# Altium integrated library Microchip dsPIC33E.IntLib: 190 symbols (part 11 of 15)
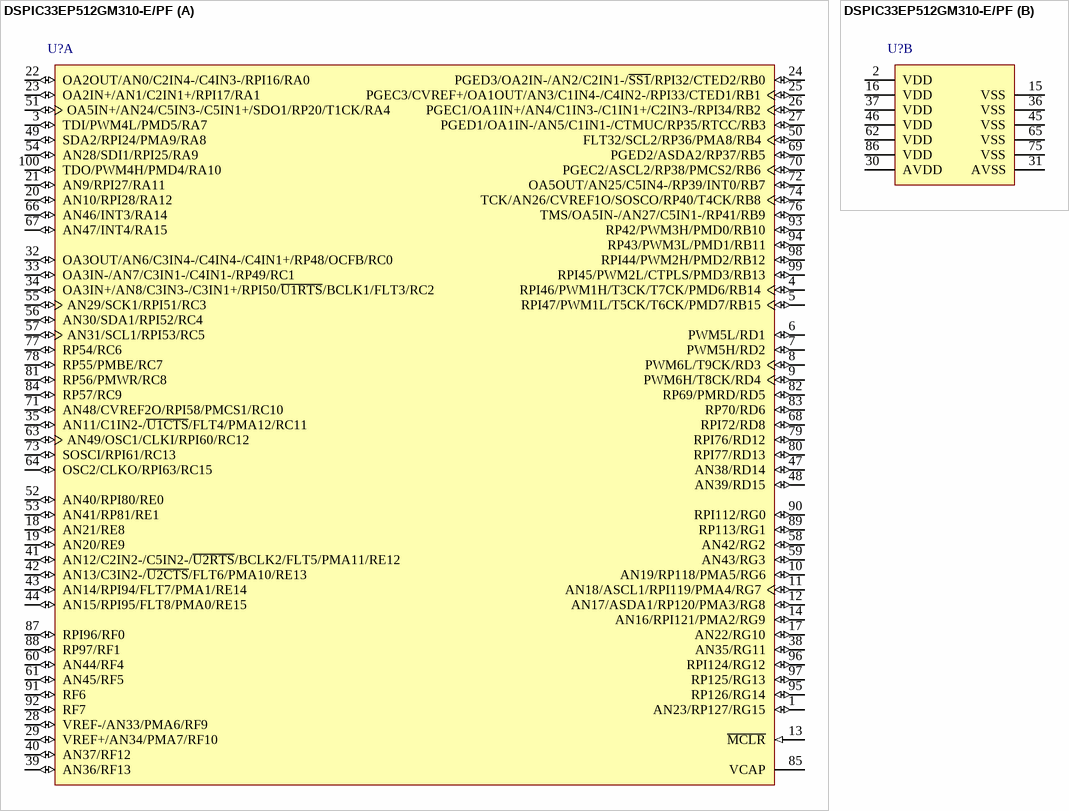
[diagram p72: symbol DSPIC33EP512GM310-E/PF]

## DSPIC33EP512GM310-E/PF
designator U?
16-Bit Digital Signal Controllers with High-Speed PWM, Op Amps and Advanced Analog Features, 60 MIPS, 85 I/O, Extended Temperature, 100-Pin TQFP (PF100), Tray; Manufacturer: Microchip; PartNumber: DSPIC33EP512GM310-E/PF; VCC Range: 3.0 to 3.6 V; DatasheetVersion: Rev. C; PackageVersion: C04-110B, 12/2012; PackageReference: TQFP-PF100; PackageDescription: 100-Lead Thin Plastic Quad Flat Pack, 14 x 14 mm Body, 0.5 mm Pitch; Supplier 1: Digi-Key; Supplier Part Number 1: DSPIC33EP512GM310-E/PF-ND; Supplier 2: Newark; Supplier Part Number 2: 66W6853; Supplier 3: Mouser; Supplier Part Number 3: 579-512GM310-E/PF; Packing: Tray; Mounting Technology: Surface Mount; ComponentLink1Description: Manufacturer URL; ComponentLink1URL: http://www.microchip.com/; ComponentLink2Description: Datasheet; ComponentLink2URL: http://ww1.microchip.com/downloads/en/DeviceDoc/70000689c.pdf; ComponentLink3Description: Package Specification; ComponentLink3URL: http://www.microchip.com/stellent/groups/techpub_sg/documents/packagingspec/en012702.pdf
footprint MCHP-TQFP-PF100_N (QFP, 100-Leads, Body 14x14mm, Pitch 0.5mm, IPC Medium Density)
footprint MCHP-TQFP-PF100_L (QFP, 100-Leads, Body 14x14mm, Pitch 0.5mm, IPC High Density)
footprint MCHP-TQFP-PF100_M (QFP, 100-Leads, Body 14x14mm, Pitch 0.5mm, IPC Low Density)
part A pins: 1 AN23/RP127/RG15 (io), 3 TDI/PWM4L/PMD5/RA7 (io), 4 RPI46/PWM1H/T3CK/T7CK/PMD6/RB14 (io), 5 RPI47/PWM1L/T5CK/T6CK/PMD7/RB15 (io), 6 PWM5L/RD1 (io), 7 PWM5H/RD2 (io), 8 PWM6L/T9CK/RD3 (io), 9 PWM6H/T8CK/RD4 (io), 10 AN19/RP118/PMA5/RG6 (io), 11 AN18/ASCL1/RPI119/PMA4/RG7 (io), 12 AN17/ASDA1/RP120/PMA3/RG8 (io), 13 ~{MCLR} (in) "Master Clear (Reset) input. This pin is an active-low Reset to the device.", 14 AN16/RPI121/PMA2/RG9 (io), 17 AN22/RG10 (io), 18 AN21/RE8 (io), 19 AN20/RE9 (io), 20 AN10/RPI28/RA12 (io), 21 AN9/RPI27/RA11 (io), 22 OA2OUT/AN0/C2IN4-/C4IN3-/RPI16/RA0 (io), 23 OA2IN+/AN1/C2IN1+/RPI17/RA1 (io), 24 PGED3/OA2IN-/AN2/C2IN1-/~{SS1}/RPI32/CTED2/RB0 (io), 25 PGEC3/CVREF+/OA1OUT/AN3/C1IN4-/C4IN2-/RPI33/CTED1/RB1 (io), 26 PGEC1/OA1IN+/AN4/C1IN3-/C1IN1+/C2IN3-/RPI34/RB2 (io), 27 PGED1/OA1IN-/AN5/C1IN1-/CTMUC/RP35/RTCC/RB3 (io), 28 VREF-/AN33/PMA6/RF9 (io), 29 VREF+/AN34/PMA7/RF10 (io), 32 OA3OUT/AN6/C3IN4-/C4IN4-/C4IN1+/RP48/OCFB/RC0 (io), 33 OA3IN-/AN7/C3IN1-/C4IN1-/RP49/RC1 (io), 34 OA3IN+/AN8/C3IN3-/C3IN1+/RPI50/~{U1RTS}/BCLK1/FLT3/RC2 (io), 35 AN11/C1IN2-/~{U1CTS}/FLT4/PMA12/RC11 (io), 38 AN35/RG11 (io), 39 AN36/RF13 (io), 40 AN37/RF12 (io), 41 AN12/C2IN2-/C5IN2-/~{U2RTS}/BCLK2/FLT5/PMA11/RE12 (io), 42 AN13/C3IN2-/~{U2CTS}/FLT6/PMA10/RE13 (io), 43 AN14/RPI94/FLT7/PMA1/RE14 (io), 44 AN15/RPI95/FLT8/PMA0/RE15 (io), 47 AN38/RD14 (io), 48 AN39/RD15 (io), 49 SDA2/RPI24/PMA9/RA8 (io), 50 FLT32/SCL2/RP36/PMA8/RB4 (io), 51 OA5IN+/AN24/C5IN3-/C5IN1+/SDO1/RP20/T1CK/RA4 (io), 52 AN40/RPI80/RE0 (io), 53 AN41/RP81/RE1 (io), 54 AN28/SDI1/RPI25/RA9 (io), 55 AN29/SCK1/RPI51/RC3 (io), 56 AN30/SDA1/RPI52/RC4 (io), 57 AN31/SCL1/RPI53/RC5 (io), 58 AN42/RG2 (io), 59 AN43/RG3 (io), 60 AN44/RF4 (io), 61 AN45/RF5 (io), 63 AN49/OSC1/CLKI/RPI60/RC12 (io), 64 OSC2/CLKO/RPI63/RC15 (io), 66 AN46/INT3/RA14 (io), 67 AN47/INT4/RA15 (io), 68 RPI72/RD8 (io), 69 PGED2/ASDA2/RP37/RB5 (io), 70 PGEC2/ASCL2/RP38/PMCS2/RB6 (io), 71 AN48/CVREF2O/RPI58/PMCS1/RC10 (io), 72 OA5OUT/AN25/C5IN4-/RP39/INT0/RB7 (io), 73 SOSCI/RPI61/RC13 (io), 74 TCK/AN26/CVREF1O/SOSCO/RP40/T4CK/RB8 (io), 76 TMS/OA5IN-/AN27/C5IN1-/RP41/RB9 (io), 77 RP54/RC6 (io), 78 RP55/PMBE/RC7 (io), 79 RPI76/RD12 (io), 80 RPI77/RD13 (io), 81 RP56/PMWR/RC8 (io), 82 RP69/PMRD/RD5 (io), 83 RP70/RD6 (io), 84 RP57/RC9 (io), 85 VCAP "CPU logic filter capacitor connection.", 87 RPI96/RF0 (io), 88 RP97/RF1 (io), 89 RP113/RG1 (io), 90 RPI112/RG0 (io), 91 RF6 (io) "PORTF is a bidirectional I/O port.", 92 RF7 (io) "PORTF is a bidirectional I/O port.", 93 RP42/PWM3H/PMD0/RB10 (io), 94 RP43/PWM3L/PMD1/RB11 (io), 95 RP126/RG14 (io), 96 RPI124/RG12 (io), 97 RP125/RG13 (io), 98 RPI44/PWM2H/PMD2/RB12 (io), 99 RPI45/PWM2L/CTPLS/PMD3/RB13 (io), 100 TDO/PWM4H/PMD4/RA10 (io)
part B pins: 2 VDD (power) "Positive supply for peripheral logic and I/O pins.", 15 VSS (power) "Ground reference for logic and I/O pins.", 16 VDD (power) "Positive supply for peripheral logic and I/O pins.", 30 AVDD (power) "Positive supply for analog modules. This pin must be connected at all times.", 31 AVSS (power) "Ground reference for analog modules.", 36 VSS (power) "Ground reference for logic and I/O pins.", 37 VDD (power) "Positive supply for peripheral logic and I/O pins.", 45 VSS (power) "Ground reference for logic and I/O pins.", 46 VDD (power) "Positive supply for peripheral logic and I/O pins.", 62 VDD (power) "Positive supply for peripheral logic and I/O pins.", 65 VSS (power) "Ground reference for logic and I/O pins.", 75 VSS (power) "Ground reference for logic and I/O pins.", 86 VDD (power) "Positive supply for peripheral logic and I/O pins."

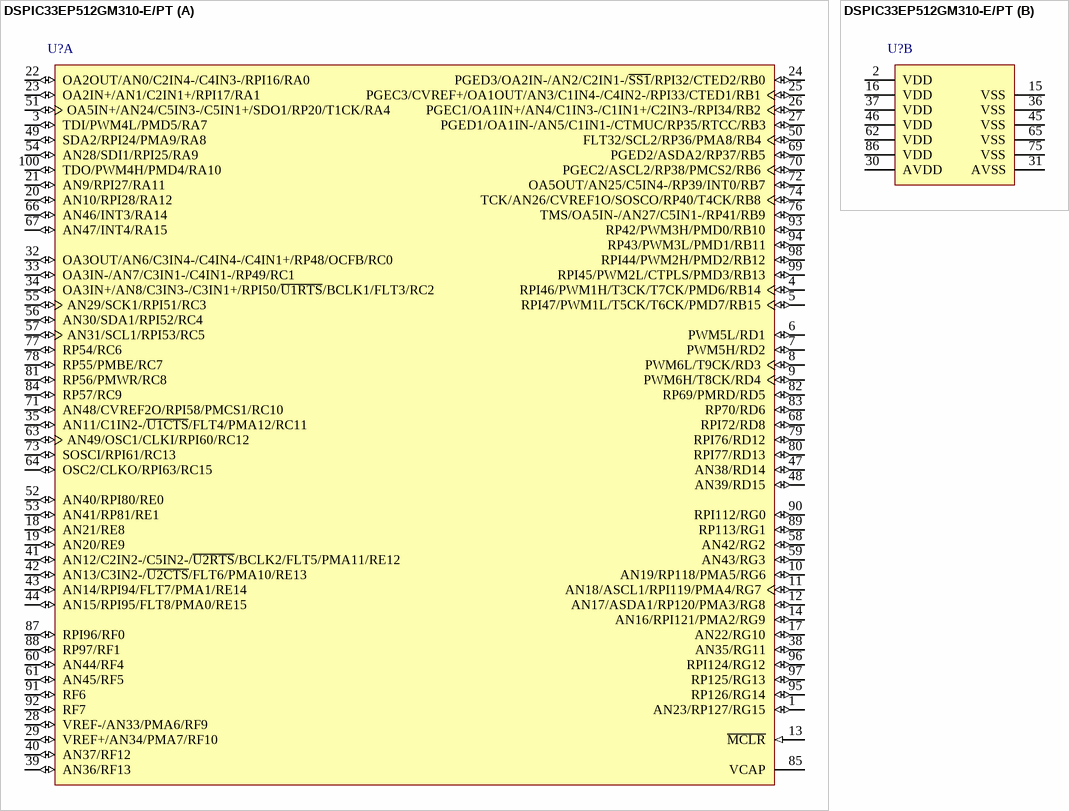
[diagram p37: symbol DSPIC33EP512GM310-E/PT]

## DSPIC33EP512GM310-E/PT
designator U?
16-Bit Digital Signal Controllers with High-Speed PWM, Op Amps and Advanced Analog Features, 60 MIPS, 85 I/O, Extended Temperature, 100-Pin TQFP (PT100), Tray; Manufacturer: Microchip; PartNumber: DSPIC33EP512GM310-E/PT; VCC Range: 3.0 to 3.6 V; DatasheetVersion: Rev. C; PackageVersion: C04-100B, 12/2012; PackageReference: TQFP-PT100; PackageDescription: 100-Lead Plastic Thin Quad Flatpack, 12 x 12 mm Body, 0.4 mm Pitch; Supplier 1: Digi-Key; Supplier Part Number 1: DSPIC33EP512GM310-E/PT-ND; Supplier 2: Newark; Supplier Part Number 2: 66W6854; Supplier 3: Mouser; Supplier Part Number 3: 579-512GM310-E/PT; Packing: Tray; Mounting Technology: Surface Mount; ComponentLink1Description: Manufacturer URL; ComponentLink1URL: http://www.microchip.com/; ComponentLink2Description: Datasheet; ComponentLink2URL: http://ww1.microchip.com/downloads/en/DeviceDoc/70000689c.pdf; ComponentLink3Description: Package Specification; ComponentLink3URL: http://www.microchip.com/stellent/groups/techpub_sg/documents/packagingspec/en012702.pdf
footprint MCHP-TQFP-PT100_N (QFP, 100-Leads, Body 12x12mm, Pitch 0.4mm, IPC Medium Density)
footprint MCHP-TQFP-PT100_L (QFP, 100-Leads, Body 12x12mm, Pitch 0.4mm, IPC High Density)
footprint MCHP-TQFP-PT100_M (TQFP, 100-Leads, Body 12x12mm, Pitch 0.4mm, IPC Low Density)
part A pins: 1 AN23/RP127/RG15 (io), 3 TDI/PWM4L/PMD5/RA7 (io), 4 RPI46/PWM1H/T3CK/T7CK/PMD6/RB14 (io), 5 RPI47/PWM1L/T5CK/T6CK/PMD7/RB15 (io), 6 PWM5L/RD1 (io), 7 PWM5H/RD2 (io), 8 PWM6L/T9CK/RD3 (io), 9 PWM6H/T8CK/RD4 (io), 10 AN19/RP118/PMA5/RG6 (io), 11 AN18/ASCL1/RPI119/PMA4/RG7 (io), 12 AN17/ASDA1/RP120/PMA3/RG8 (io), 13 ~{MCLR} (in) "Master Clear (Reset) input. This pin is an active-low Reset to the device.", 14 AN16/RPI121/PMA2/RG9 (io), 17 AN22/RG10 (io), 18 AN21/RE8 (io), 19 AN20/RE9 (io), 20 AN10/RPI28/RA12 (io), 21 AN9/RPI27/RA11 (io), 22 OA2OUT/AN0/C2IN4-/C4IN3-/RPI16/RA0 (io), 23 OA2IN+/AN1/C2IN1+/RPI17/RA1 (io), 24 PGED3/OA2IN-/AN2/C2IN1-/~{SS1}/RPI32/CTED2/RB0 (io), 25 PGEC3/CVREF+/OA1OUT/AN3/C1IN4-/C4IN2-/RPI33/CTED1/RB1 (io), 26 PGEC1/OA1IN+/AN4/C1IN3-/C1IN1+/C2IN3-/RPI34/RB2 (io), 27 PGED1/OA1IN-/AN5/C1IN1-/CTMUC/RP35/RTCC/RB3 (io), 28 VREF-/AN33/PMA6/RF9 (io), 29 VREF+/AN34/PMA7/RF10 (io), 32 OA3OUT/AN6/C3IN4-/C4IN4-/C4IN1+/RP48/OCFB/RC0 (io), 33 OA3IN-/AN7/C3IN1-/C4IN1-/RP49/RC1 (io), 34 OA3IN+/AN8/C3IN3-/C3IN1+/RPI50/~{U1RTS}/BCLK1/FLT3/RC2 (io), 35 AN11/C1IN2-/~{U1CTS}/FLT4/PMA12/RC11 (io), 38 AN35/RG11 (io), 39 AN36/RF13 (io), 40 AN37/RF12 (io), 41 AN12/C2IN2-/C5IN2-/~{U2RTS}/BCLK2/FLT5/PMA11/RE12 (io), 42 AN13/C3IN2-/~{U2CTS}/FLT6/PMA10/RE13 (io), 43 AN14/RPI94/FLT7/PMA1/RE14 (io), 44 AN15/RPI95/FLT8/PMA0/RE15 (io), 47 AN38/RD14 (io), 48 AN39/RD15 (io), 49 SDA2/RPI24/PMA9/RA8 (io), 50 FLT32/SCL2/RP36/PMA8/RB4 (io), 51 OA5IN+/AN24/C5IN3-/C5IN1+/SDO1/RP20/T1CK/RA4 (io), 52 AN40/RPI80/RE0 (io), 53 AN41/RP81/RE1 (io), 54 AN28/SDI1/RPI25/RA9 (io), 55 AN29/SCK1/RPI51/RC3 (io), 56 AN30/SDA1/RPI52/RC4 (io), 57 AN31/SCL1/RPI53/RC5 (io), 58 AN42/RG2 (io), 59 AN43/RG3 (io), 60 AN44/RF4 (io), 61 AN45/RF5 (io), 63 AN49/OSC1/CLKI/RPI60/RC12 (io), 64 OSC2/CLKO/RPI63/RC15 (io), 66 AN46/INT3/RA14 (io), 67 AN47/INT4/RA15 (io), 68 RPI72/RD8 (io), 69 PGED2/ASDA2/RP37/RB5 (io), 70 PGEC2/ASCL2/RP38/PMCS2/RB6 (io), 71 AN48/CVREF2O/RPI58/PMCS1/RC10 (io), 72 OA5OUT/AN25/C5IN4-/RP39/INT0/RB7 (io), 73 SOSCI/RPI61/RC13 (io), 74 TCK/AN26/CVREF1O/SOSCO/RP40/T4CK/RB8 (io), 76 TMS/OA5IN-/AN27/C5IN1-/RP41/RB9 (io), 77 RP54/RC6 (io), 78 RP55/PMBE/RC7 (io), 79 RPI76/RD12 (io), 80 RPI77/RD13 (io), 81 RP56/PMWR/RC8 (io), 82 RP69/PMRD/RD5 (io), 83 RP70/RD6 (io), 84 RP57/RC9 (io), 85 VCAP "CPU logic filter capacitor connection.", 87 RPI96/RF0 (io), 88 RP97/RF1 (io), 89 RP113/RG1 (io), 90 RPI112/RG0 (io), 91 RF6 (io) "PORTF is a bidirectional I/O port.", 92 RF7 (io) "PORTF is a bidirectional I/O port.", 93 RP42/PWM3H/PMD0/RB10 (io), 94 RP43/PWM3L/PMD1/RB11 (io), 95 RP126/RG14 (io), 96 RPI124/RG12 (io), 97 RP125/RG13 (io), 98 RPI44/PWM2H/PMD2/RB12 (io), 99 RPI45/PWM2L/CTPLS/PMD3/RB13 (io), 100 TDO/PWM4H/PMD4/RA10 (io)
part B pins: 2 VDD (power) "Positive supply for peripheral logic and I/O pins.", 15 VSS (power) "Ground reference for logic and I/O pins.", 16 VDD (power) "Positive supply for peripheral logic and I/O pins.", 30 AVDD (power) "Positive supply for analog modules. This pin must be connected at all times.", 31 AVSS (power) "Ground reference for analog modules.", 36 VSS (power) "Ground reference for logic and I/O pins.", 37 VDD (power) "Positive supply for peripheral logic and I/O pins.", 45 VSS (power) "Ground reference for logic and I/O pins.", 46 VDD (power) "Positive supply for peripheral logic and I/O pins.", 62 VDD (power) "Positive supply for peripheral logic and I/O pins.", 65 VSS (power) "Ground reference for logic and I/O pins.", 75 VSS (power) "Ground reference for logic and I/O pins.", 86 VDD (power) "Positive supply for peripheral logic and I/O pins."

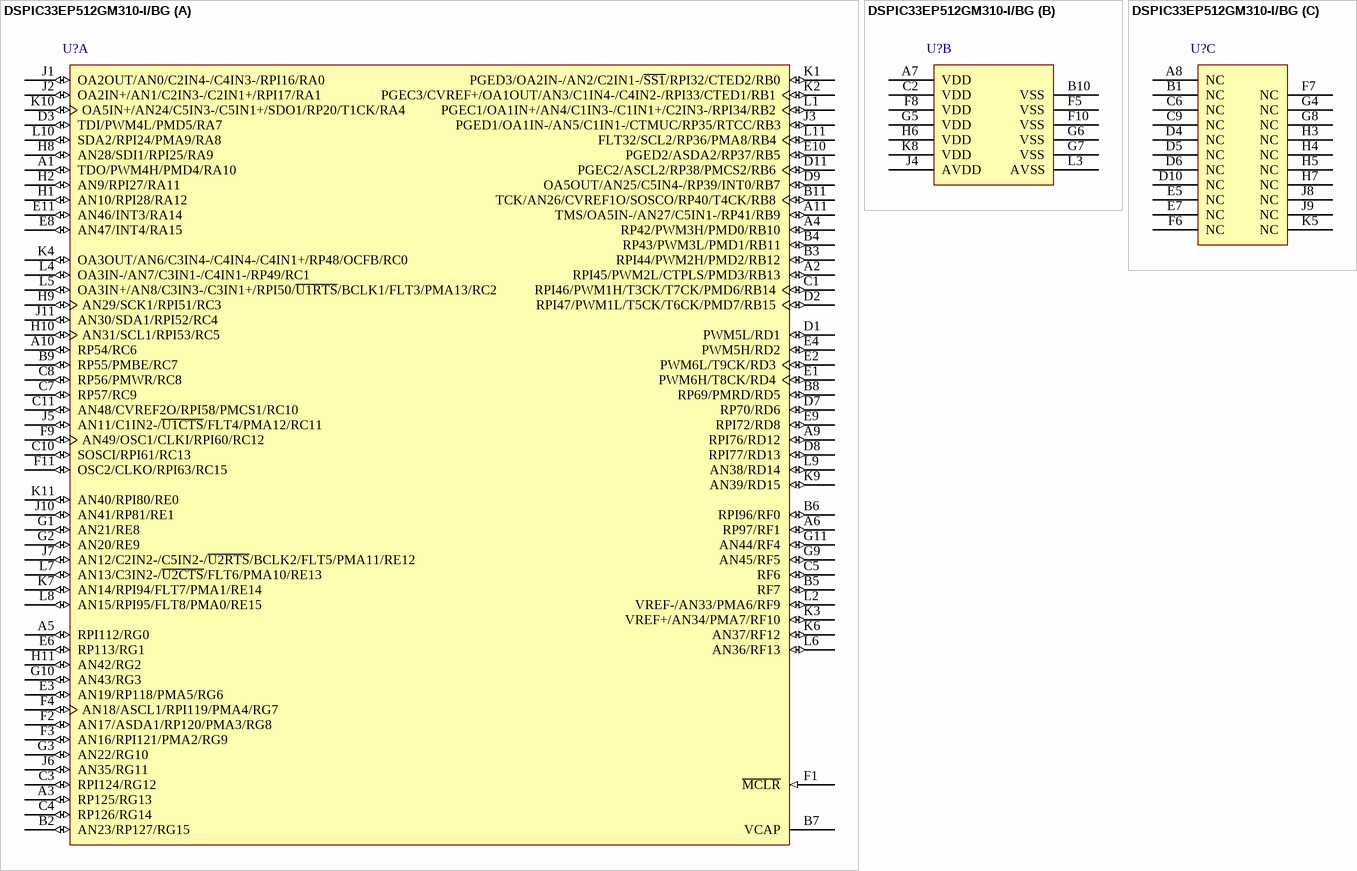
[diagram p38: symbol DSPIC33EP512GM310-I/BG]

## DSPIC33EP512GM310-I/BG
designator U?
16-Bit Digital Signal Controllers with High-Speed PWM, Op Amps and Advanced Analog Features, 70 MIPS, 85 I/O, Industrial Temperature, 121-Pin TFBGA (BG121), Tray; Manufacturer: Microchip; PartNumber: DSPIC33EP512GM310-I/BG; VCC Range: 3.0 to 3.6 V; DatasheetVersion: Rev. C; PackageVersion: C04-148D, 12/2012; PackageReference: TFBGA-BG121; PackageDescription: 121-Ball Plastic Thin Profile Ball Grid Array, 10 x 10 mm Body, 0.8 mm Pitch; Supplier 1: Digi-Key; Supplier Part Number 1: DSPIC33EP512GM310-I/BG-ND; Supplier 2: Farnell; Supplier Part Number 2: 2353892; Supplier 3: Newark; Supplier Part Number 3: 66W6858; Supplier 4: Mouser; Supplier Part Number 4: 579-512GM310-I/BG; Packing: Tray; Mounting Technology: Surface Mount; ComponentLink1Description: Manufacturer URL; ComponentLink1URL: http://www.microchip.com/; ComponentLink2Description: Datasheet; ComponentLink2URL: http://ww1.microchip.com/downloads/en/DeviceDoc/70000689c.pdf; ComponentLink3Description: Package Specification; ComponentLink3URL: http://www.microchip.com/stellent/groups/techpub_sg/documents/packagingspec/en012702.pdf
footprint MCHP-TFBGA-BG121 (BGA, 121-Balls, Body 10x10mm, Pitch 0.8mm)
part A pins: A1 TDO/PWM4H/PMD4/RA10 (io), A2 RPI45/PWM2L/CTPLS/PMD3/RB13 (io), A3 RP125/RG13 (io), A4 RP42/PWM3H/PMD0/RB10 (io), A5 RPI112/RG0 (io), A6 RP97/RF1 (io), A9 RPI76/RD12 (io), A10 RP54/RC6 (io), A11 TMS/OA5IN-/AN27/C5IN1-/RP41/RB9 (io), B2 AN23/RP127/RG15 (io), B3 RPI44/PWM2H/PMD2/RB12 (io), B4 RP43/PWM3L/PMD1/RB11 (io), B5 RF7 (io) "PORTF is a bidirectional I/O port.", B6 RPI96/RF0 (io), B7 VCAP "CPU logic filter capacitor connection.", B8 RP69/PMRD/RD5 (io), B9 RP55/PMBE/RC7 (io), B11 TCK/AN26/CVREF1O/SOSCO/RP40/T4CK/RB8 (io), C1 RPI46/PWM1H/T3CK/T7CK/PMD6/RB14 (io), C3 RPI124/RG12 (io), C4 RP126/RG14 (io), C5 RF6 (io) "PORTF is a bidirectional I/O port.", C7 RP57/RC9 (io), C8 RP56/PMWR/RC8 (io), C10 SOSCI/RPI61/RC13 (io), C11 AN48/CVREF2O/RPI58/PMCS1/RC10 (io), D1 PWM5L/RD1 (io), D2 RPI47/PWM1L/T5CK/T6CK/PMD7/RB15 (io), D3 TDI/PWM4L/PMD5/RA7 (io), D7 RP70/RD6 (io), D8 RPI77/RD13 (io), D9 OA5OUT/AN25/C5IN4-/RP39/INT0/RB7 (io), D11 PGEC2/ASCL2/RP38/PMCS2/RB6 (io), E1 PWM6H/T8CK/RD4 (io), E2 PWM6L/T9CK/RD3 (io), E3 AN19/RP118/PMA5/RG6 (io), E4 PWM5H/RD2 (io), E6 RP113/RG1 (io), E8 AN47/INT4/RA15 (io), E9 RPI72/RD8 (io), E10 PGED2/ASDA2/RP37/RB5 (io), E11 AN46/INT3/RA14 (io), F1 ~{MCLR} (in) "Master Clear (Reset) input. This pin is an active-low Reset to the device.", F2 AN17/ASDA1/RP120/PMA3/RG8 (io), F3 AN16/RPI121/PMA2/RG9 (io), F4 AN18/ASCL1/RPI119/PMA4/RG7 (io), F9 AN49/OSC1/CLKI/RPI60/RC12 (io), F11 OSC2/CLKO/RPI63/RC15 (io), G1 AN21/RE8 (io), G2 AN20/RE9 (io), G3 AN22/RG10 (io), G9 AN45/RF5 (io), G10 AN43/RG3 (io), G11 AN44/RF4 (io), H1 AN10/RPI28/RA12 (io), H2 AN9/RPI27/RA11 (io), H8 AN28/SDI1/RPI25/RA9 (io), H9 AN29/SCK1/RPI51/RC3 (io), H10 AN31/SCL1/RPI53/RC5 (io), H11 AN42/RG2 (io), J1 OA2OUT/AN0/C2IN4-/C4IN3-/RPI16/RA0 (io), J2 OA2IN+/AN1/C2IN3-/C2IN1+/RPI17/RA1 (io), J3 PGED1/OA1IN-/AN5/C1IN1-/CTMUC/RP35/RTCC/RB3 (io), J5 AN11/C1IN2-/~{U1CTS}/FLT4/PMA12/RC11 (io), J6 AN35/RG11 (io), J7 AN12/C2IN2-/C5IN2-/~{U2RTS}/BCLK2/FLT5/PMA11/RE12 (io), J10 AN41/RP81/RE1 (io), J11 AN30/SDA1/RPI52/RC4 (io), K1 PGED3/OA2IN-/AN2/C2IN1-/~{SS1}/RPI32/CTED2/RB0 (io), K2 PGEC3/CVREF+/OA1OUT/AN3/C1IN4-/C4IN2-/RPI33/CTED1/RB1 (io), K3 VREF+/AN34/PMA7/RF10 (io), K4 OA3OUT/AN6/C3IN4-/C4IN4-/C4IN1+/RP48/OCFB/RC0 (io), K6 AN37/RF12 (io), K7 AN14/RPI94/FLT7/PMA1/RE14 (io), K9 AN39/RD15 (io), K10 OA5IN+/AN24/C5IN3-/C5IN1+/SDO1/RP20/T1CK/RA4 (io), K11 AN40/RPI80/RE0 (io), L1 PGEC1/OA1IN+/AN4/C1IN3-/C1IN1+/C2IN3-/RPI34/RB2 (io), L2 VREF-/AN33/PMA6/RF9 (io), L4 OA3IN-/AN7/C3IN1-/C4IN1-/RP49/RC1 (io), L5 OA3IN+/AN8/C3IN3-/C3IN1+/RPI50/~{U1RTS}/BCLK1/FLT3/PMA13/RC2 (io), L6 AN36/RF13 (io), L7 AN13/C3IN2-/~{U2CTS}/FLT6/PMA10/RE13 (io), L8 AN15/RPI95/FLT8/PMA0/RE15 (io), L9 AN38/RD14 (io), L10 SDA2/RPI24/PMA9/RA8 (io), L11 FLT32/SCL2/RP36/PMA8/RB4 (io)
part B pins: A7 VDD (power) "Positive supply for peripheral logic and I/O pins.", B10 VSS (power) "Ground reference for logic and I/O pins.", C2 VDD (power) "Positive supply for peripheral logic and I/O pins.", F5 VSS (power) "Ground reference for logic and I/O pins.", F8 VDD (power) "Positive supply for peripheral logic and I/O pins.", F10 VSS (power) "Ground reference for logic and I/O pins.", G5 VDD (power) "Positive supply for peripheral logic and I/O pins.", G6 VSS (power) "Ground reference for logic and I/O pins.", G7 VSS (power) "Ground reference for logic and I/O pins.", H6 VDD (power) "Positive supply for peripheral logic and I/O pins.", J4 AVDD (power) "Positive supply for analog modules. This pin must be connected at all times.", K8 VDD (power) "Positive supply for peripheral logic and I/O pins.", L3 AVSS (power) "Ground reference for analog modules."
part C pins: A8 NC "No Connect", B1 NC "No Connect", C6 NC "No Connect", C9 NC "No Connect", D4 NC "No Connect", D5 NC "No Connect", D6 NC "No Connect", D10 NC "No Connect", E5 NC "No Connect", E7 NC "No Connect", F6 NC "No Connect", F7 NC "No Connect", G4 NC "No Connect", G8 NC "No Connect", H3 NC "No Connect", H4 NC "No Connect", H5 NC "No Connect", H7 NC "No Connect", J8 NC "No Connect", J9 NC "No Connect", K5 NC "No Connect"

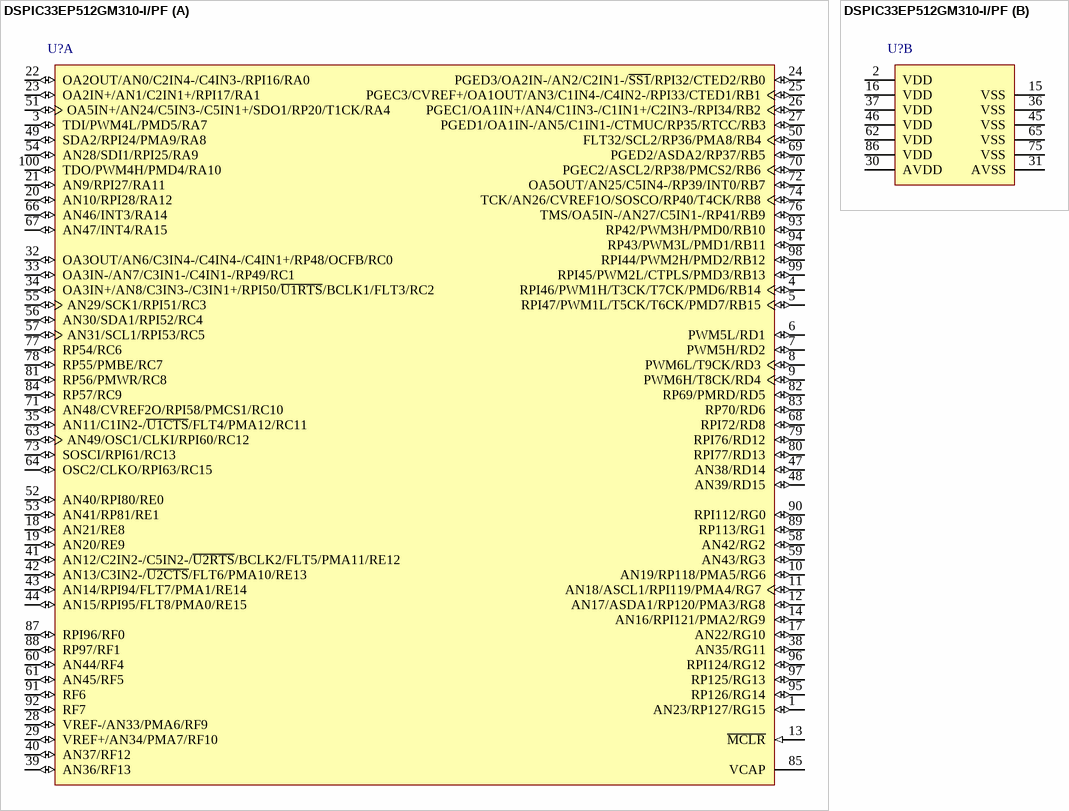
[diagram p39: symbol DSPIC33EP512GM310-I/PF]

## DSPIC33EP512GM310-I/PF
designator U?
16-Bit Digital Signal Controllers with High-Speed PWM, Op Amps and Advanced Analog Features, 70 MIPS, 85 I/O, Industrial Temperature, 100-Pin TQFP (PF100), Tray; Manufacturer: Microchip; PartNumber: DSPIC33EP512GM310-I/PF; VCC Range: 3.0 to 3.6 V; DatasheetVersion: Rev. C; PackageVersion: C04-110B, 12/2012; PackageReference: TQFP-PF100; PackageDescription: 100-Lead Thin Plastic Quad Flat Pack, 14 x 14 mm Body, 0.5 mm Pitch; Supplier 1: Digi-Key; Supplier Part Number 1: DSPIC33EP512GM310-I/PF-ND; Supplier 2: Farnell; Supplier Part Number 2: 2353893; Supplier 3: Newark; Supplier Part Number 3: 66W6859; Supplier 4: Mouser; Supplier Part Number 4: 579-512GM310-I/PF; Packing: Tray; Mounting Technology: Surface Mount; ComponentLink1Description: Manufacturer URL; ComponentLink1URL: http://www.microchip.com/; ComponentLink2Description: Datasheet; ComponentLink2URL: http://ww1.microchip.com/downloads/en/DeviceDoc/70000689c.pdf; ComponentLink3Description: Package Specification; ComponentLink3URL: http://www.microchip.com/stellent/groups/techpub_sg/documents/packagingspec/en012702.pdf
footprint MCHP-TQFP-PF100_N (QFP, 100-Leads, Body 14x14mm, Pitch 0.5mm, IPC Medium Density)
footprint MCHP-TQFP-PF100_L (QFP, 100-Leads, Body 14x14mm, Pitch 0.5mm, IPC High Density)
footprint MCHP-TQFP-PF100_M (QFP, 100-Leads, Body 14x14mm, Pitch 0.5mm, IPC Low Density)
part A pins: 1 AN23/RP127/RG15 (io), 3 TDI/PWM4L/PMD5/RA7 (io), 4 RPI46/PWM1H/T3CK/T7CK/PMD6/RB14 (io), 5 RPI47/PWM1L/T5CK/T6CK/PMD7/RB15 (io), 6 PWM5L/RD1 (io), 7 PWM5H/RD2 (io), 8 PWM6L/T9CK/RD3 (io), 9 PWM6H/T8CK/RD4 (io), 10 AN19/RP118/PMA5/RG6 (io), 11 AN18/ASCL1/RPI119/PMA4/RG7 (io), 12 AN17/ASDA1/RP120/PMA3/RG8 (io), 13 ~{MCLR} (in) "Master Clear (Reset) input. This pin is an active-low Reset to the device.", 14 AN16/RPI121/PMA2/RG9 (io), 17 AN22/RG10 (io), 18 AN21/RE8 (io), 19 AN20/RE9 (io), 20 AN10/RPI28/RA12 (io), 21 AN9/RPI27/RA11 (io), 22 OA2OUT/AN0/C2IN4-/C4IN3-/RPI16/RA0 (io), 23 OA2IN+/AN1/C2IN1+/RPI17/RA1 (io), 24 PGED3/OA2IN-/AN2/C2IN1-/~{SS1}/RPI32/CTED2/RB0 (io), 25 PGEC3/CVREF+/OA1OUT/AN3/C1IN4-/C4IN2-/RPI33/CTED1/RB1 (io), 26 PGEC1/OA1IN+/AN4/C1IN3-/C1IN1+/C2IN3-/RPI34/RB2 (io), 27 PGED1/OA1IN-/AN5/C1IN1-/CTMUC/RP35/RTCC/RB3 (io), 28 VREF-/AN33/PMA6/RF9 (io), 29 VREF+/AN34/PMA7/RF10 (io), 32 OA3OUT/AN6/C3IN4-/C4IN4-/C4IN1+/RP48/OCFB/RC0 (io), 33 OA3IN-/AN7/C3IN1-/C4IN1-/RP49/RC1 (io), 34 OA3IN+/AN8/C3IN3-/C3IN1+/RPI50/~{U1RTS}/BCLK1/FLT3/RC2 (io), 35 AN11/C1IN2-/~{U1CTS}/FLT4/PMA12/RC11 (io), 38 AN35/RG11 (io), 39 AN36/RF13 (io), 40 AN37/RF12 (io), 41 AN12/C2IN2-/C5IN2-/~{U2RTS}/BCLK2/FLT5/PMA11/RE12 (io), 42 AN13/C3IN2-/~{U2CTS}/FLT6/PMA10/RE13 (io), 43 AN14/RPI94/FLT7/PMA1/RE14 (io), 44 AN15/RPI95/FLT8/PMA0/RE15 (io), 47 AN38/RD14 (io), 48 AN39/RD15 (io), 49 SDA2/RPI24/PMA9/RA8 (io), 50 FLT32/SCL2/RP36/PMA8/RB4 (io), 51 OA5IN+/AN24/C5IN3-/C5IN1+/SDO1/RP20/T1CK/RA4 (io), 52 AN40/RPI80/RE0 (io), 53 AN41/RP81/RE1 (io), 54 AN28/SDI1/RPI25/RA9 (io), 55 AN29/SCK1/RPI51/RC3 (io), 56 AN30/SDA1/RPI52/RC4 (io), 57 AN31/SCL1/RPI53/RC5 (io), 58 AN42/RG2 (io), 59 AN43/RG3 (io), 60 AN44/RF4 (io), 61 AN45/RF5 (io), 63 AN49/OSC1/CLKI/RPI60/RC12 (io), 64 OSC2/CLKO/RPI63/RC15 (io), 66 AN46/INT3/RA14 (io), 67 AN47/INT4/RA15 (io), 68 RPI72/RD8 (io), 69 PGED2/ASDA2/RP37/RB5 (io), 70 PGEC2/ASCL2/RP38/PMCS2/RB6 (io), 71 AN48/CVREF2O/RPI58/PMCS1/RC10 (io), 72 OA5OUT/AN25/C5IN4-/RP39/INT0/RB7 (io), 73 SOSCI/RPI61/RC13 (io), 74 TCK/AN26/CVREF1O/SOSCO/RP40/T4CK/RB8 (io), 76 TMS/OA5IN-/AN27/C5IN1-/RP41/RB9 (io), 77 RP54/RC6 (io), 78 RP55/PMBE/RC7 (io), 79 RPI76/RD12 (io), 80 RPI77/RD13 (io), 81 RP56/PMWR/RC8 (io), 82 RP69/PMRD/RD5 (io), 83 RP70/RD6 (io), 84 RP57/RC9 (io), 85 VCAP "CPU logic filter capacitor connection.", 87 RPI96/RF0 (io), 88 RP97/RF1 (io), 89 RP113/RG1 (io), 90 RPI112/RG0 (io), 91 RF6 (io) "PORTF is a bidirectional I/O port.", 92 RF7 (io) "PORTF is a bidirectional I/O port.", 93 RP42/PWM3H/PMD0/RB10 (io), 94 RP43/PWM3L/PMD1/RB11 (io), 95 RP126/RG14 (io), 96 RPI124/RG12 (io), 97 RP125/RG13 (io), 98 RPI44/PWM2H/PMD2/RB12 (io), 99 RPI45/PWM2L/CTPLS/PMD3/RB13 (io), 100 TDO/PWM4H/PMD4/RA10 (io)
part B pins: 2 VDD (power) "Positive supply for peripheral logic and I/O pins.", 15 VSS (power) "Ground reference for logic and I/O pins.", 16 VDD (power) "Positive supply for peripheral logic and I/O pins.", 30 AVDD (power) "Positive supply for analog modules. This pin must be connected at all times.", 31 AVSS (power) "Ground reference for analog modules.", 36 VSS (power) "Ground reference for logic and I/O pins.", 37 VDD (power) "Positive supply for peripheral logic and I/O pins.", 45 VSS (power) "Ground reference for logic and I/O pins.", 46 VDD (power) "Positive supply for peripheral logic and I/O pins.", 62 VDD (power) "Positive supply for peripheral logic and I/O pins.", 65 VSS (power) "Ground reference for logic and I/O pins.", 75 VSS (power) "Ground reference for logic and I/O pins.", 86 VDD (power) "Positive supply for peripheral logic and I/O pins."

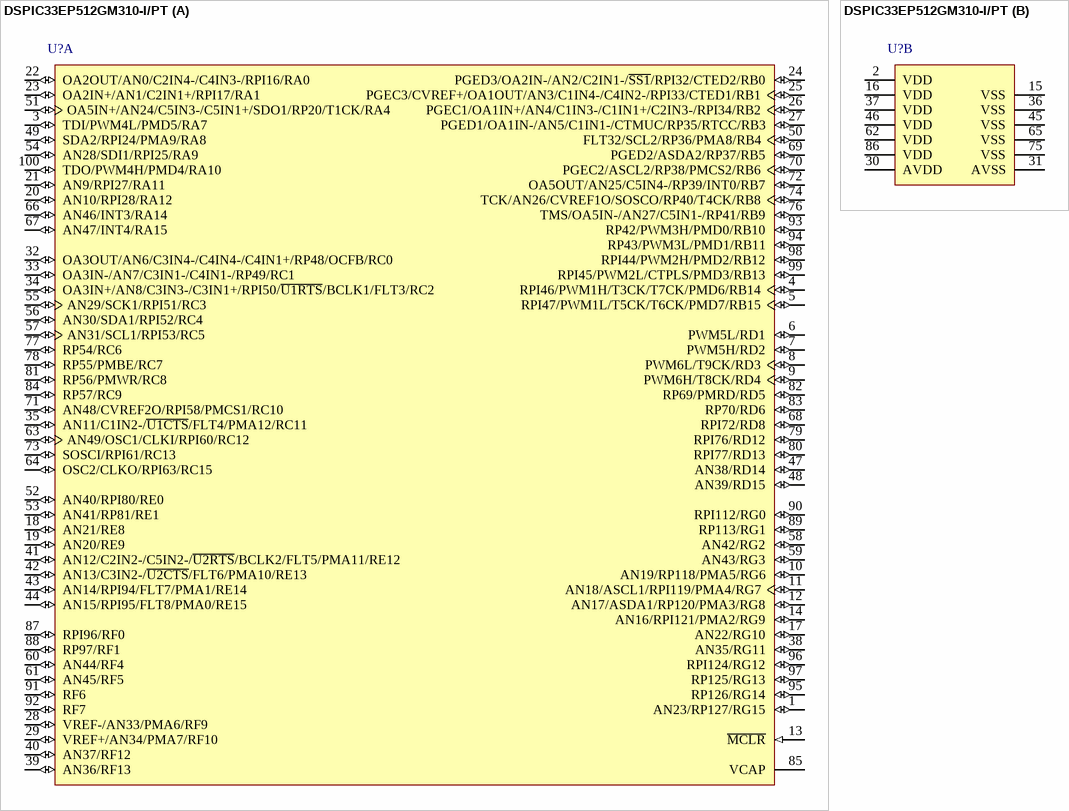
[diagram p40: symbol DSPIC33EP512GM310-I/PT]

## DSPIC33EP512GM310-I/PT
designator U?
16-Bit Digital Signal Controllers with High-Speed PWM, Op Amps and Advanced Analog Features, 70 MIPS, 85 I/O, Industrial Temperature, 100-Pin TQFP (PT100), Tray; Manufacturer: Microchip; PartNumber: DSPIC33EP512GM310-I/PT; VCC Range: 3.0 to 3.6 V; DatasheetVersion: Rev. C; PackageVersion: C04-100B, 12/2012; PackageReference: TQFP-PT100; PackageDescription: 100-Lead Plastic Thin Quad Flatpack, 12 x 12 mm Body, 0.4 mm Pitch; Supplier 1: Digi-Key; Supplier Part Number 1: DSPIC33EP512GM310-I/PT-ND; Supplier 2: Farnell; Supplier Part Number 2: 2355357; Supplier 3: Newark; Supplier Part Number 3: 66W6860; Supplier 4: Mouser; Supplier Part Number 4: 579-512GM310-I/PT; Packing: Tray; Mounting Technology: Surface Mount; ComponentLink1Description: Manufacturer URL; ComponentLink1URL: http://www.microchip.com/; ComponentLink2Description: Datasheet; ComponentLink2URL: http://ww1.microchip.com/downloads/en/DeviceDoc/70000689c.pdf; ComponentLink3Description: Package Specification; ComponentLink3URL: http://www.microchip.com/stellent/groups/techpub_sg/documents/packagingspec/en012702.pdf
footprint MCHP-TQFP-PT100_N (QFP, 100-Leads, Body 12x12mm, Pitch 0.4mm, IPC Medium Density)
footprint MCHP-TQFP-PT100_L (QFP, 100-Leads, Body 12x12mm, Pitch 0.4mm, IPC High Density)
footprint MCHP-TQFP-PT100_M (TQFP, 100-Leads, Body 12x12mm, Pitch 0.4mm, IPC Low Density)
part A pins: 1 AN23/RP127/RG15 (io), 3 TDI/PWM4L/PMD5/RA7 (io), 4 RPI46/PWM1H/T3CK/T7CK/PMD6/RB14 (io), 5 RPI47/PWM1L/T5CK/T6CK/PMD7/RB15 (io), 6 PWM5L/RD1 (io), 7 PWM5H/RD2 (io), 8 PWM6L/T9CK/RD3 (io), 9 PWM6H/T8CK/RD4 (io), 10 AN19/RP118/PMA5/RG6 (io), 11 AN18/ASCL1/RPI119/PMA4/RG7 (io), 12 AN17/ASDA1/RP120/PMA3/RG8 (io), 13 ~{MCLR} (in) "Master Clear (Reset) input. This pin is an active-low Reset to the device.", 14 AN16/RPI121/PMA2/RG9 (io), 17 AN22/RG10 (io), 18 AN21/RE8 (io), 19 AN20/RE9 (io), 20 AN10/RPI28/RA12 (io), 21 AN9/RPI27/RA11 (io), 22 OA2OUT/AN0/C2IN4-/C4IN3-/RPI16/RA0 (io), 23 OA2IN+/AN1/C2IN1+/RPI17/RA1 (io), 24 PGED3/OA2IN-/AN2/C2IN1-/~{SS1}/RPI32/CTED2/RB0 (io), 25 PGEC3/CVREF+/OA1OUT/AN3/C1IN4-/C4IN2-/RPI33/CTED1/RB1 (io), 26 PGEC1/OA1IN+/AN4/C1IN3-/C1IN1+/C2IN3-/RPI34/RB2 (io), 27 PGED1/OA1IN-/AN5/C1IN1-/CTMUC/RP35/RTCC/RB3 (io), 28 VREF-/AN33/PMA6/RF9 (io), 29 VREF+/AN34/PMA7/RF10 (io), 32 OA3OUT/AN6/C3IN4-/C4IN4-/C4IN1+/RP48/OCFB/RC0 (io), 33 OA3IN-/AN7/C3IN1-/C4IN1-/RP49/RC1 (io), 34 OA3IN+/AN8/C3IN3-/C3IN1+/RPI50/~{U1RTS}/BCLK1/FLT3/RC2 (io), 35 AN11/C1IN2-/~{U1CTS}/FLT4/PMA12/RC11 (io), 38 AN35/RG11 (io), 39 AN36/RF13 (io), 40 AN37/RF12 (io), 41 AN12/C2IN2-/C5IN2-/~{U2RTS}/BCLK2/FLT5/PMA11/RE12 (io), 42 AN13/C3IN2-/~{U2CTS}/FLT6/PMA10/RE13 (io), 43 AN14/RPI94/FLT7/PMA1/RE14 (io), 44 AN15/RPI95/FLT8/PMA0/RE15 (io), 47 AN38/RD14 (io), 48 AN39/RD15 (io), 49 SDA2/RPI24/PMA9/RA8 (io), 50 FLT32/SCL2/RP36/PMA8/RB4 (io), 51 OA5IN+/AN24/C5IN3-/C5IN1+/SDO1/RP20/T1CK/RA4 (io), 52 AN40/RPI80/RE0 (io), 53 AN41/RP81/RE1 (io), 54 AN28/SDI1/RPI25/RA9 (io), 55 AN29/SCK1/RPI51/RC3 (io), 56 AN30/SDA1/RPI52/RC4 (io), 57 AN31/SCL1/RPI53/RC5 (io), 58 AN42/RG2 (io), 59 AN43/RG3 (io), 60 AN44/RF4 (io), 61 AN45/RF5 (io), 63 AN49/OSC1/CLKI/RPI60/RC12 (io), 64 OSC2/CLKO/RPI63/RC15 (io), 66 AN46/INT3/RA14 (io), 67 AN47/INT4/RA15 (io), 68 RPI72/RD8 (io), 69 PGED2/ASDA2/RP37/RB5 (io), 70 PGEC2/ASCL2/RP38/PMCS2/RB6 (io), 71 AN48/CVREF2O/RPI58/PMCS1/RC10 (io), 72 OA5OUT/AN25/C5IN4-/RP39/INT0/RB7 (io), 73 SOSCI/RPI61/RC13 (io), 74 TCK/AN26/CVREF1O/SOSCO/RP40/T4CK/RB8 (io), 76 TMS/OA5IN-/AN27/C5IN1-/RP41/RB9 (io), 77 RP54/RC6 (io), 78 RP55/PMBE/RC7 (io), 79 RPI76/RD12 (io), 80 RPI77/RD13 (io), 81 RP56/PMWR/RC8 (io), 82 RP69/PMRD/RD5 (io), 83 RP70/RD6 (io), 84 RP57/RC9 (io), 85 VCAP "CPU logic filter capacitor connection.", 87 RPI96/RF0 (io), 88 RP97/RF1 (io), 89 RP113/RG1 (io), 90 RPI112/RG0 (io), 91 RF6 (io) "PORTF is a bidirectional I/O port.", 92 RF7 (io) "PORTF is a bidirectional I/O port.", 93 RP42/PWM3H/PMD0/RB10 (io), 94 RP43/PWM3L/PMD1/RB11 (io), 95 RP126/RG14 (io), 96 RPI124/RG12 (io), 97 RP125/RG13 (io), 98 RPI44/PWM2H/PMD2/RB12 (io), 99 RPI45/PWM2L/CTPLS/PMD3/RB13 (io), 100 TDO/PWM4H/PMD4/RA10 (io)
part B pins: 2 VDD (power) "Positive supply for peripheral logic and I/O pins.", 15 VSS (power) "Ground reference for logic and I/O pins.", 16 VDD (power) "Positive supply for peripheral logic and I/O pins.", 30 AVDD (power) "Positive supply for analog modules. This pin must be connected at all times.", 31 AVSS (power) "Ground reference for analog modules.", 36 VSS (power) "Ground reference for logic and I/O pins.", 37 VDD (power) "Positive supply for peripheral logic and I/O pins.", 45 VSS (power) "Ground reference for logic and I/O pins.", 46 VDD (power) "Positive supply for peripheral logic and I/O pins.", 62 VDD (power) "Positive supply for peripheral logic and I/O pins.", 65 VSS (power) "Ground reference for logic and I/O pins.", 75 VSS (power) "Ground reference for logic and I/O pins.", 86 VDD (power) "Positive supply for peripheral logic and I/O pins."

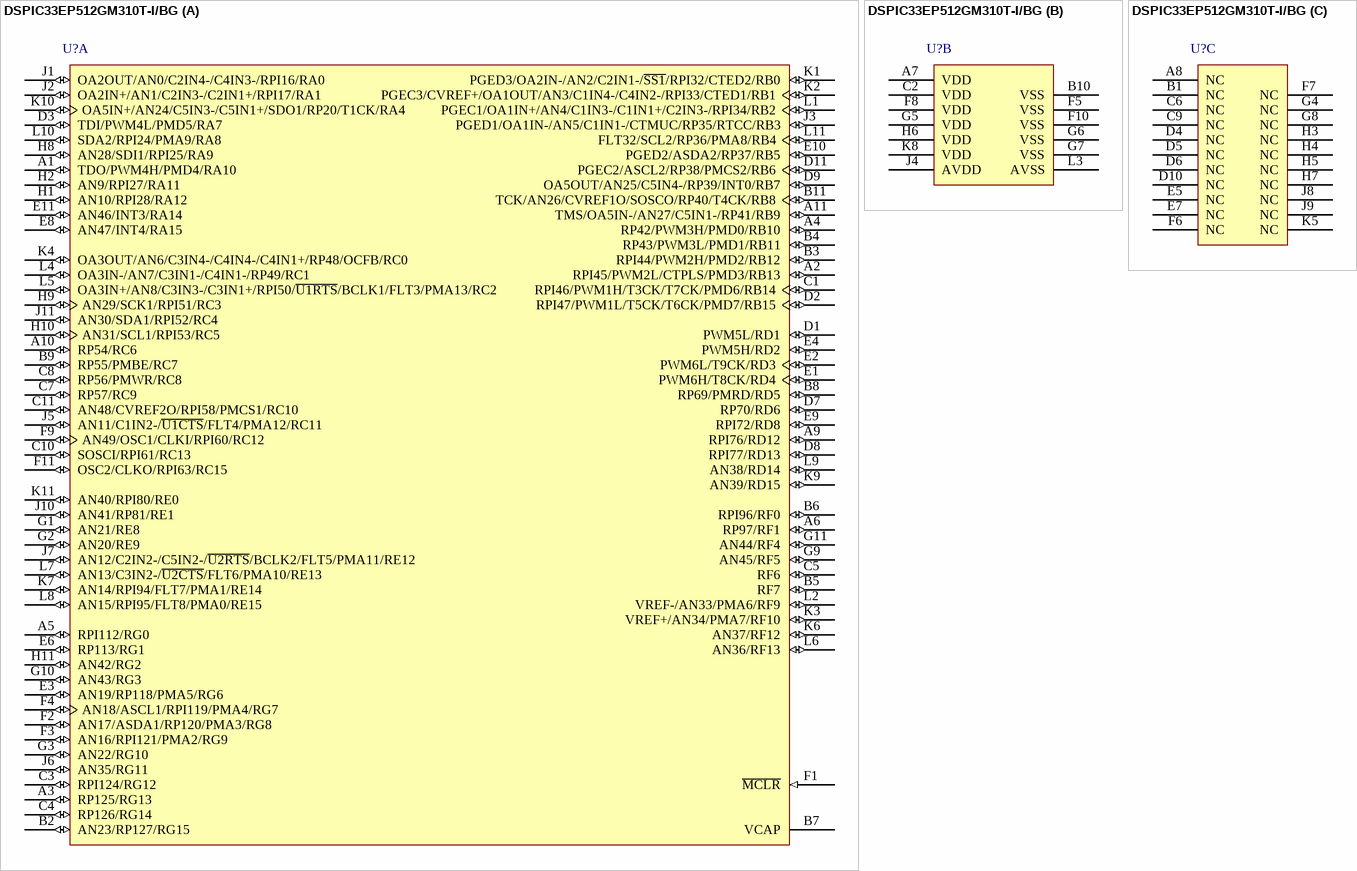
[diagram p41: symbol DSPIC33EP512GM310T-I/BG]

## DSPIC33EP512GM310T-I/BG
designator U?
16-Bit Digital Signal Controllers with High-Speed PWM, Op Amps and Advanced Analog Features, 70 MIPS, 85 I/O, Industrial Temperature, 121-Pin TFBGA (BG121), Tape and Reel; Manufacturer: Microchip; PartNumber: DSPIC33EP512GM310T-I/BG; VCC Range: 3.0 to 3.6 V; DatasheetVersion: Rev. C; PackageVersion: C04-148D, 12/2012; PackageReference: TFBGA-BG121; PackageDescription: 121-Ball Plastic Thin Profile Ball Grid Array, 10 x 10 mm Body, 0.8 mm Pitch; Packing: Tape and Reel; Mounting Technology: Surface Mount; ComponentLink1Description: Manufacturer URL; ComponentLink1URL: http://www.microchip.com/; ComponentLink2Description: Datasheet; ComponentLink2URL: http://ww1.microchip.com/downloads/en/DeviceDoc/70000689c.pdf; ComponentLink3Description: Package Specification; ComponentLink3URL: http://www.microchip.com/stellent/groups/techpub_sg/documents/packagingspec/en012702.pdf
footprint MCHP-TFBGA-BG121 (BGA, 121-Balls, Body 10x10mm, Pitch 0.8mm)
part A pins: A1 TDO/PWM4H/PMD4/RA10 (io), A2 RPI45/PWM2L/CTPLS/PMD3/RB13 (io), A3 RP125/RG13 (io), A4 RP42/PWM3H/PMD0/RB10 (io), A5 RPI112/RG0 (io), A6 RP97/RF1 (io), A9 RPI76/RD12 (io), A10 RP54/RC6 (io), A11 TMS/OA5IN-/AN27/C5IN1-/RP41/RB9 (io), B2 AN23/RP127/RG15 (io), B3 RPI44/PWM2H/PMD2/RB12 (io), B4 RP43/PWM3L/PMD1/RB11 (io), B5 RF7 (io) "PORTF is a bidirectional I/O port.", B6 RPI96/RF0 (io), B7 VCAP "CPU logic filter capacitor connection.", B8 RP69/PMRD/RD5 (io), B9 RP55/PMBE/RC7 (io), B11 TCK/AN26/CVREF1O/SOSCO/RP40/T4CK/RB8 (io), C1 RPI46/PWM1H/T3CK/T7CK/PMD6/RB14 (io), C3 RPI124/RG12 (io), C4 RP126/RG14 (io), C5 RF6 (io) "PORTF is a bidirectional I/O port.", C7 RP57/RC9 (io), C8 RP56/PMWR/RC8 (io), C10 SOSCI/RPI61/RC13 (io), C11 AN48/CVREF2O/RPI58/PMCS1/RC10 (io), D1 PWM5L/RD1 (io), D2 RPI47/PWM1L/T5CK/T6CK/PMD7/RB15 (io), D3 TDI/PWM4L/PMD5/RA7 (io), D7 RP70/RD6 (io), D8 RPI77/RD13 (io), D9 OA5OUT/AN25/C5IN4-/RP39/INT0/RB7 (io), D11 PGEC2/ASCL2/RP38/PMCS2/RB6 (io), E1 PWM6H/T8CK/RD4 (io), E2 PWM6L/T9CK/RD3 (io), E3 AN19/RP118/PMA5/RG6 (io), E4 PWM5H/RD2 (io), E6 RP113/RG1 (io), E8 AN47/INT4/RA15 (io), E9 RPI72/RD8 (io), E10 PGED2/ASDA2/RP37/RB5 (io), E11 AN46/INT3/RA14 (io), F1 ~{MCLR} (in) "Master Clear (Reset) input. This pin is an active-low Reset to the device.", F2 AN17/ASDA1/RP120/PMA3/RG8 (io), F3 AN16/RPI121/PMA2/RG9 (io), F4 AN18/ASCL1/RPI119/PMA4/RG7 (io), F9 AN49/OSC1/CLKI/RPI60/RC12 (io), F11 OSC2/CLKO/RPI63/RC15 (io), G1 AN21/RE8 (io), G2 AN20/RE9 (io), G3 AN22/RG10 (io), G9 AN45/RF5 (io), G10 AN43/RG3 (io), G11 AN44/RF4 (io), H1 AN10/RPI28/RA12 (io), H2 AN9/RPI27/RA11 (io), H8 AN28/SDI1/RPI25/RA9 (io), H9 AN29/SCK1/RPI51/RC3 (io), H10 AN31/SCL1/RPI53/RC5 (io), H11 AN42/RG2 (io), J1 OA2OUT/AN0/C2IN4-/C4IN3-/RPI16/RA0 (io), J2 OA2IN+/AN1/C2IN3-/C2IN1+/RPI17/RA1 (io), J3 PGED1/OA1IN-/AN5/C1IN1-/CTMUC/RP35/RTCC/RB3 (io), J5 AN11/C1IN2-/~{U1CTS}/FLT4/PMA12/RC11 (io), J6 AN35/RG11 (io), J7 AN12/C2IN2-/C5IN2-/~{U2RTS}/BCLK2/FLT5/PMA11/RE12 (io), J10 AN41/RP81/RE1 (io), J11 AN30/SDA1/RPI52/RC4 (io), K1 PGED3/OA2IN-/AN2/C2IN1-/~{SS1}/RPI32/CTED2/RB0 (io), K2 PGEC3/CVREF+/OA1OUT/AN3/C1IN4-/C4IN2-/RPI33/CTED1/RB1 (io), K3 VREF+/AN34/PMA7/RF10 (io), K4 OA3OUT/AN6/C3IN4-/C4IN4-/C4IN1+/RP48/OCFB/RC0 (io), K6 AN37/RF12 (io), K7 AN14/RPI94/FLT7/PMA1/RE14 (io), K9 AN39/RD15 (io), K10 OA5IN+/AN24/C5IN3-/C5IN1+/SDO1/RP20/T1CK/RA4 (io), K11 AN40/RPI80/RE0 (io), L1 PGEC1/OA1IN+/AN4/C1IN3-/C1IN1+/C2IN3-/RPI34/RB2 (io), L2 VREF-/AN33/PMA6/RF9 (io), L4 OA3IN-/AN7/C3IN1-/C4IN1-/RP49/RC1 (io), L5 OA3IN+/AN8/C3IN3-/C3IN1+/RPI50/~{U1RTS}/BCLK1/FLT3/PMA13/RC2 (io), L6 AN36/RF13 (io), L7 AN13/C3IN2-/~{U2CTS}/FLT6/PMA10/RE13 (io), L8 AN15/RPI95/FLT8/PMA0/RE15 (io), L9 AN38/RD14 (io), L10 SDA2/RPI24/PMA9/RA8 (io), L11 FLT32/SCL2/RP36/PMA8/RB4 (io)
part B pins: A7 VDD (power) "Positive supply for peripheral logic and I/O pins.", B10 VSS (power) "Ground reference for logic and I/O pins.", C2 VDD (power) "Positive supply for peripheral logic and I/O pins.", F5 VSS (power) "Ground reference for logic and I/O pins.", F8 VDD (power) "Positive supply for peripheral logic and I/O pins.", F10 VSS (power) "Ground reference for logic and I/O pins.", G5 VDD (power) "Positive supply for peripheral logic and I/O pins.", G6 VSS (power) "Ground reference for logic and I/O pins.", G7 VSS (power) "Ground reference for logic and I/O pins.", H6 VDD (power) "Positive supply for peripheral logic and I/O pins.", J4 AVDD (power) "Positive supply for analog modules. This pin must be connected at all times.", K8 VDD (power) "Positive supply for peripheral logic and I/O pins.", L3 AVSS (power) "Ground reference for analog modules."
part C pins: A8 NC "No Connect", B1 NC "No Connect", C6 NC "No Connect", C9 NC "No Connect", D4 NC "No Connect", D5 NC "No Connect", D6 NC "No Connect", D10 NC "No Connect", E5 NC "No Connect", E7 NC "No Connect", F6 NC "No Connect", F7 NC "No Connect", G4 NC "No Connect", G8 NC "No Connect", H3 NC "No Connect", H4 NC "No Connect", H5 NC "No Connect", H7 NC "No Connect", J8 NC "No Connect", J9 NC "No Connect", K5 NC "No Connect"

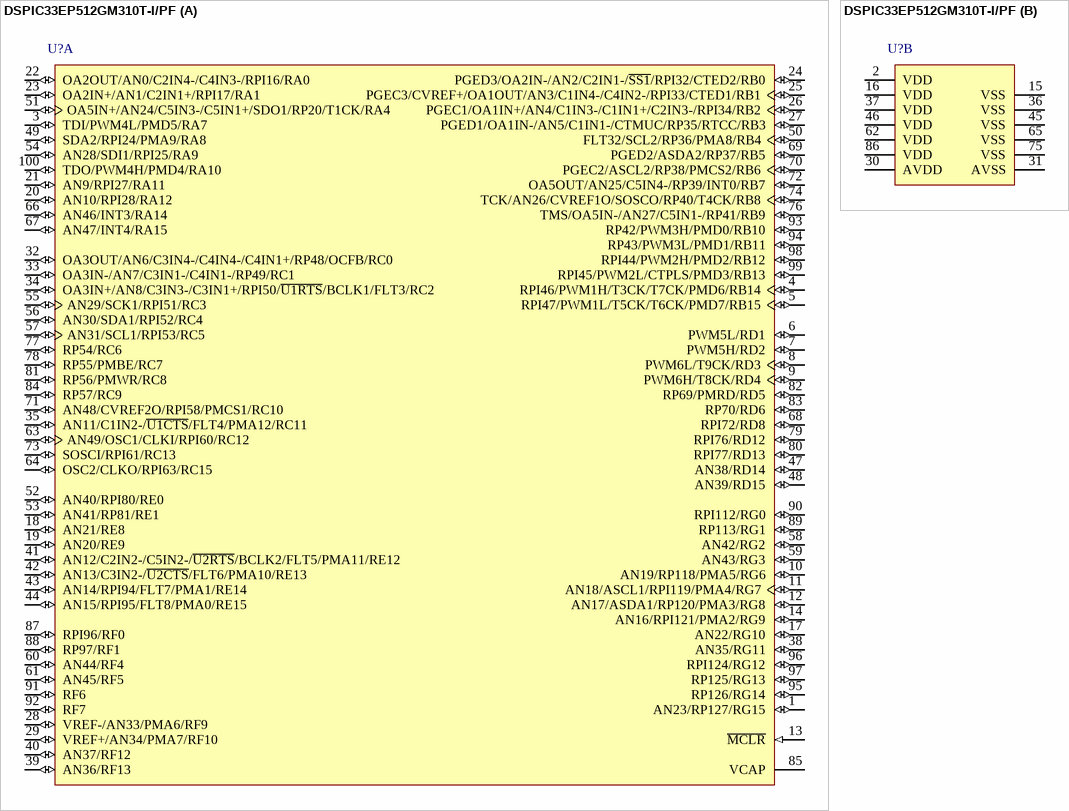
[diagram p42: symbol DSPIC33EP512GM310T-I/PF]

## DSPIC33EP512GM310T-I/PF
designator U?
16-Bit Digital Signal Controllers with High-Speed PWM, Op Amps and Advanced Analog Features, 70 MIPS, 85 I/O, Industrial Temperature, 100-Pin TQFP (PF100), Tape and Reel; Manufacturer: Microchip; PartNumber: DSPIC33EP512GM310T-I/PF; VCC Range: 3.0 to 3.6 V; DatasheetVersion: Rev. C; PackageVersion: C04-110B, 12/2012; PackageReference: TQFP-PF100; PackageDescription: 100-Lead Thin Plastic Quad Flat Pack, 14 x 14 mm Body, 0.5 mm Pitch; Packing: Tape and Reel; Mounting Technology: Surface Mount; ComponentLink1Description: Manufacturer URL; ComponentLink1URL: http://www.microchip.com/; ComponentLink2Description: Datasheet; ComponentLink2URL: http://ww1.microchip.com/downloads/en/DeviceDoc/70000689c.pdf; ComponentLink3Description: Package Specification; ComponentLink3URL: http://www.microchip.com/stellent/groups/techpub_sg/documents/packagingspec/en012702.pdf
footprint MCHP-TQFP-PF100_N (QFP, 100-Leads, Body 14x14mm, Pitch 0.5mm, IPC Medium Density)
footprint MCHP-TQFP-PF100_L (QFP, 100-Leads, Body 14x14mm, Pitch 0.5mm, IPC High Density)
footprint MCHP-TQFP-PF100_M (QFP, 100-Leads, Body 14x14mm, Pitch 0.5mm, IPC Low Density)
part A pins: 1 AN23/RP127/RG15 (io), 3 TDI/PWM4L/PMD5/RA7 (io), 4 RPI46/PWM1H/T3CK/T7CK/PMD6/RB14 (io), 5 RPI47/PWM1L/T5CK/T6CK/PMD7/RB15 (io), 6 PWM5L/RD1 (io), 7 PWM5H/RD2 (io), 8 PWM6L/T9CK/RD3 (io), 9 PWM6H/T8CK/RD4 (io), 10 AN19/RP118/PMA5/RG6 (io), 11 AN18/ASCL1/RPI119/PMA4/RG7 (io), 12 AN17/ASDA1/RP120/PMA3/RG8 (io), 13 ~{MCLR} (in) "Master Clear (Reset) input. This pin is an active-low Reset to the device.", 14 AN16/RPI121/PMA2/RG9 (io), 17 AN22/RG10 (io), 18 AN21/RE8 (io), 19 AN20/RE9 (io), 20 AN10/RPI28/RA12 (io), 21 AN9/RPI27/RA11 (io), 22 OA2OUT/AN0/C2IN4-/C4IN3-/RPI16/RA0 (io), 23 OA2IN+/AN1/C2IN1+/RPI17/RA1 (io), 24 PGED3/OA2IN-/AN2/C2IN1-/~{SS1}/RPI32/CTED2/RB0 (io), 25 PGEC3/CVREF+/OA1OUT/AN3/C1IN4-/C4IN2-/RPI33/CTED1/RB1 (io), 26 PGEC1/OA1IN+/AN4/C1IN3-/C1IN1+/C2IN3-/RPI34/RB2 (io), 27 PGED1/OA1IN-/AN5/C1IN1-/CTMUC/RP35/RTCC/RB3 (io), 28 VREF-/AN33/PMA6/RF9 (io), 29 VREF+/AN34/PMA7/RF10 (io), 32 OA3OUT/AN6/C3IN4-/C4IN4-/C4IN1+/RP48/OCFB/RC0 (io), 33 OA3IN-/AN7/C3IN1-/C4IN1-/RP49/RC1 (io), 34 OA3IN+/AN8/C3IN3-/C3IN1+/RPI50/~{U1RTS}/BCLK1/FLT3/RC2 (io), 35 AN11/C1IN2-/~{U1CTS}/FLT4/PMA12/RC11 (io), 38 AN35/RG11 (io), 39 AN36/RF13 (io), 40 AN37/RF12 (io), 41 AN12/C2IN2-/C5IN2-/~{U2RTS}/BCLK2/FLT5/PMA11/RE12 (io), 42 AN13/C3IN2-/~{U2CTS}/FLT6/PMA10/RE13 (io), 43 AN14/RPI94/FLT7/PMA1/RE14 (io), 44 AN15/RPI95/FLT8/PMA0/RE15 (io), 47 AN38/RD14 (io), 48 AN39/RD15 (io), 49 SDA2/RPI24/PMA9/RA8 (io), 50 FLT32/SCL2/RP36/PMA8/RB4 (io), 51 OA5IN+/AN24/C5IN3-/C5IN1+/SDO1/RP20/T1CK/RA4 (io), 52 AN40/RPI80/RE0 (io), 53 AN41/RP81/RE1 (io), 54 AN28/SDI1/RPI25/RA9 (io), 55 AN29/SCK1/RPI51/RC3 (io), 56 AN30/SDA1/RPI52/RC4 (io), 57 AN31/SCL1/RPI53/RC5 (io), 58 AN42/RG2 (io), 59 AN43/RG3 (io), 60 AN44/RF4 (io), 61 AN45/RF5 (io), 63 AN49/OSC1/CLKI/RPI60/RC12 (io), 64 OSC2/CLKO/RPI63/RC15 (io), 66 AN46/INT3/RA14 (io), 67 AN47/INT4/RA15 (io), 68 RPI72/RD8 (io), 69 PGED2/ASDA2/RP37/RB5 (io), 70 PGEC2/ASCL2/RP38/PMCS2/RB6 (io), 71 AN48/CVREF2O/RPI58/PMCS1/RC10 (io), 72 OA5OUT/AN25/C5IN4-/RP39/INT0/RB7 (io), 73 SOSCI/RPI61/RC13 (io), 74 TCK/AN26/CVREF1O/SOSCO/RP40/T4CK/RB8 (io), 76 TMS/OA5IN-/AN27/C5IN1-/RP41/RB9 (io), 77 RP54/RC6 (io), 78 RP55/PMBE/RC7 (io), 79 RPI76/RD12 (io), 80 RPI77/RD13 (io), 81 RP56/PMWR/RC8 (io), 82 RP69/PMRD/RD5 (io), 83 RP70/RD6 (io), 84 RP57/RC9 (io), 85 VCAP "CPU logic filter capacitor connection.", 87 RPI96/RF0 (io), 88 RP97/RF1 (io), 89 RP113/RG1 (io), 90 RPI112/RG0 (io), 91 RF6 (io) "PORTF is a bidirectional I/O port.", 92 RF7 (io) "PORTF is a bidirectional I/O port.", 93 RP42/PWM3H/PMD0/RB10 (io), 94 RP43/PWM3L/PMD1/RB11 (io), 95 RP126/RG14 (io), 96 RPI124/RG12 (io), 97 RP125/RG13 (io), 98 RPI44/PWM2H/PMD2/RB12 (io), 99 RPI45/PWM2L/CTPLS/PMD3/RB13 (io), 100 TDO/PWM4H/PMD4/RA10 (io)
part B pins: 2 VDD (power) "Positive supply for peripheral logic and I/O pins.", 15 VSS (power) "Ground reference for logic and I/O pins.", 16 VDD (power) "Positive supply for peripheral logic and I/O pins.", 30 AVDD (power) "Positive supply for analog modules. This pin must be connected at all times.", 31 AVSS (power) "Ground reference for analog modules.", 36 VSS (power) "Ground reference for logic and I/O pins.", 37 VDD (power) "Positive supply for peripheral logic and I/O pins.", 45 VSS (power) "Ground reference for logic and I/O pins.", 46 VDD (power) "Positive supply for peripheral logic and I/O pins.", 62 VDD (power) "Positive supply for peripheral logic and I/O pins.", 65 VSS (power) "Ground reference for logic and I/O pins.", 75 VSS (power) "Ground reference for logic and I/O pins.", 86 VDD (power) "Positive supply for peripheral logic and I/O pins."

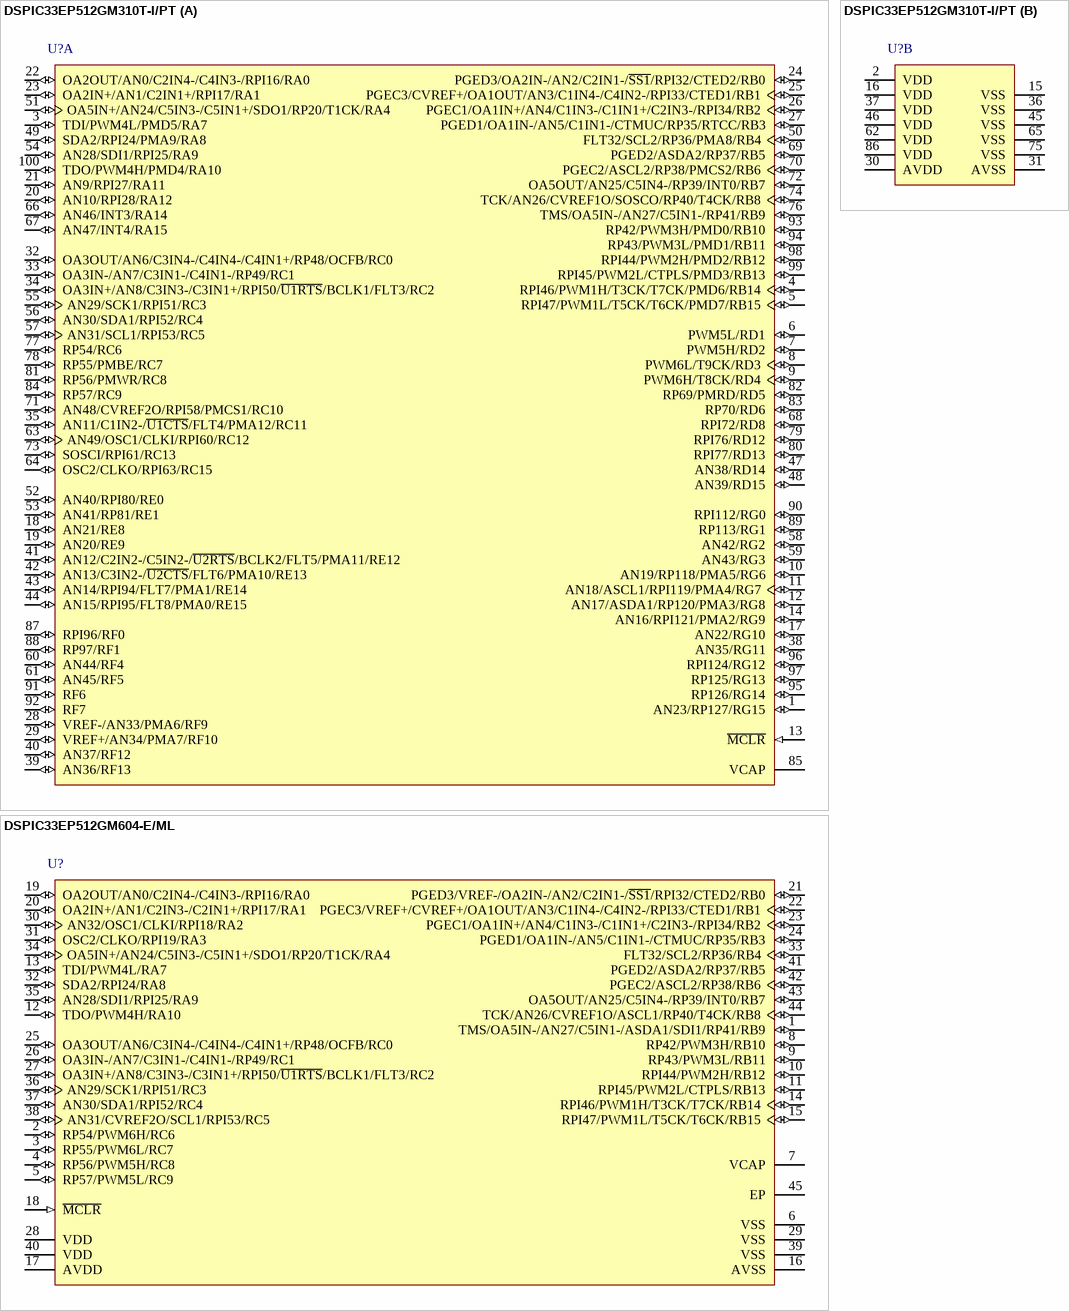
[diagram p43: symbols DSPIC33EP512GM310T-I/PT to DSPIC33EP512GM604-E/ML]

## DSPIC33EP512GM310T-I/PT
designator U?
16-Bit Digital Signal Controllers with High-Speed PWM, Op Amps and Advanced Analog Features, 70 MIPS, 85 I/O, Industrial Temperature, 100-Pin TQFP (PT100), Tape and Reel; Manufacturer: Microchip; PartNumber: DSPIC33EP512GM310T-I/PT; VCC Range: 3.0 to 3.6 V; DatasheetVersion: Rev. C; PackageVersion: C04-100B, 12/2012; PackageReference: TQFP-PT100; PackageDescription: 100-Lead Plastic Thin Quad Flatpack, 12 x 12 mm Body, 0.4 mm Pitch; Packing: Tape and Reel; Mounting Technology: Surface Mount; ComponentLink1Description: Manufacturer URL; ComponentLink1URL: http://www.microchip.com/; ComponentLink2Description: Datasheet; ComponentLink2URL: http://ww1.microchip.com/downloads/en/DeviceDoc/70000689c.pdf; ComponentLink3Description: Package Specification; ComponentLink3URL: http://www.microchip.com/stellent/groups/techpub_sg/documents/packagingspec/en012702.pdf
footprint MCHP-TQFP-PT100_N (QFP, 100-Leads, Body 12x12mm, Pitch 0.4mm, IPC Medium Density)
footprint MCHP-TQFP-PT100_L (QFP, 100-Leads, Body 12x12mm, Pitch 0.4mm, IPC High Density)
footprint MCHP-TQFP-PT100_M (TQFP, 100-Leads, Body 12x12mm, Pitch 0.4mm, IPC Low Density)
part A pins: 1 AN23/RP127/RG15 (io), 3 TDI/PWM4L/PMD5/RA7 (io), 4 RPI46/PWM1H/T3CK/T7CK/PMD6/RB14 (io), 5 RPI47/PWM1L/T5CK/T6CK/PMD7/RB15 (io), 6 PWM5L/RD1 (io), 7 PWM5H/RD2 (io), 8 PWM6L/T9CK/RD3 (io), 9 PWM6H/T8CK/RD4 (io), 10 AN19/RP118/PMA5/RG6 (io), 11 AN18/ASCL1/RPI119/PMA4/RG7 (io), 12 AN17/ASDA1/RP120/PMA3/RG8 (io), 13 ~{MCLR} (in) "Master Clear (Reset) input. This pin is an active-low Reset to the device.", 14 AN16/RPI121/PMA2/RG9 (io), 17 AN22/RG10 (io), 18 AN21/RE8 (io), 19 AN20/RE9 (io), 20 AN10/RPI28/RA12 (io), 21 AN9/RPI27/RA11 (io), 22 OA2OUT/AN0/C2IN4-/C4IN3-/RPI16/RA0 (io), 23 OA2IN+/AN1/C2IN1+/RPI17/RA1 (io), 24 PGED3/OA2IN-/AN2/C2IN1-/~{SS1}/RPI32/CTED2/RB0 (io), 25 PGEC3/CVREF+/OA1OUT/AN3/C1IN4-/C4IN2-/RPI33/CTED1/RB1 (io), 26 PGEC1/OA1IN+/AN4/C1IN3-/C1IN1+/C2IN3-/RPI34/RB2 (io), 27 PGED1/OA1IN-/AN5/C1IN1-/CTMUC/RP35/RTCC/RB3 (io), 28 VREF-/AN33/PMA6/RF9 (io), 29 VREF+/AN34/PMA7/RF10 (io), 32 OA3OUT/AN6/C3IN4-/C4IN4-/C4IN1+/RP48/OCFB/RC0 (io), 33 OA3IN-/AN7/C3IN1-/C4IN1-/RP49/RC1 (io), 34 OA3IN+/AN8/C3IN3-/C3IN1+/RPI50/~{U1RTS}/BCLK1/FLT3/RC2 (io), 35 AN11/C1IN2-/~{U1CTS}/FLT4/PMA12/RC11 (io), 38 AN35/RG11 (io), 39 AN36/RF13 (io), 40 AN37/RF12 (io), 41 AN12/C2IN2-/C5IN2-/~{U2RTS}/BCLK2/FLT5/PMA11/RE12 (io), 42 AN13/C3IN2-/~{U2CTS}/FLT6/PMA10/RE13 (io), 43 AN14/RPI94/FLT7/PMA1/RE14 (io), 44 AN15/RPI95/FLT8/PMA0/RE15 (io), 47 AN38/RD14 (io), 48 AN39/RD15 (io), 49 SDA2/RPI24/PMA9/RA8 (io), 50 FLT32/SCL2/RP36/PMA8/RB4 (io), 51 OA5IN+/AN24/C5IN3-/C5IN1+/SDO1/RP20/T1CK/RA4 (io), 52 AN40/RPI80/RE0 (io), 53 AN41/RP81/RE1 (io), 54 AN28/SDI1/RPI25/RA9 (io), 55 AN29/SCK1/RPI51/RC3 (io), 56 AN30/SDA1/RPI52/RC4 (io), 57 AN31/SCL1/RPI53/RC5 (io), 58 AN42/RG2 (io), 59 AN43/RG3 (io), 60 AN44/RF4 (io), 61 AN45/RF5 (io), 63 AN49/OSC1/CLKI/RPI60/RC12 (io), 64 OSC2/CLKO/RPI63/RC15 (io), 66 AN46/INT3/RA14 (io), 67 AN47/INT4/RA15 (io), 68 RPI72/RD8 (io), 69 PGED2/ASDA2/RP37/RB5 (io), 70 PGEC2/ASCL2/RP38/PMCS2/RB6 (io), 71 AN48/CVREF2O/RPI58/PMCS1/RC10 (io), 72 OA5OUT/AN25/C5IN4-/RP39/INT0/RB7 (io), 73 SOSCI/RPI61/RC13 (io), 74 TCK/AN26/CVREF1O/SOSCO/RP40/T4CK/RB8 (io), 76 TMS/OA5IN-/AN27/C5IN1-/RP41/RB9 (io), 77 RP54/RC6 (io), 78 RP55/PMBE/RC7 (io), 79 RPI76/RD12 (io), 80 RPI77/RD13 (io), 81 RP56/PMWR/RC8 (io), 82 RP69/PMRD/RD5 (io), 83 RP70/RD6 (io), 84 RP57/RC9 (io), 85 VCAP "CPU logic filter capacitor connection.", 87 RPI96/RF0 (io), 88 RP97/RF1 (io), 89 RP113/RG1 (io), 90 RPI112/RG0 (io), 91 RF6 (io) "PORTF is a bidirectional I/O port.", 92 RF7 (io) "PORTF is a bidirectional I/O port.", 93 RP42/PWM3H/PMD0/RB10 (io), 94 RP43/PWM3L/PMD1/RB11 (io), 95 RP126/RG14 (io), 96 RPI124/RG12 (io), 97 RP125/RG13 (io), 98 RPI44/PWM2H/PMD2/RB12 (io), 99 RPI45/PWM2L/CTPLS/PMD3/RB13 (io), 100 TDO/PWM4H/PMD4/RA10 (io)
part B pins: 2 VDD (power) "Positive supply for peripheral logic and I/O pins.", 15 VSS (power) "Ground reference for logic and I/O pins.", 16 VDD (power) "Positive supply for peripheral logic and I/O pins.", 30 AVDD (power) "Positive supply for analog modules. This pin must be connected at all times.", 31 AVSS (power) "Ground reference for analog modules.", 36 VSS (power) "Ground reference for logic and I/O pins.", 37 VDD (power) "Positive supply for peripheral logic and I/O pins.", 45 VSS (power) "Ground reference for logic and I/O pins.", 46 VDD (power) "Positive supply for peripheral logic and I/O pins.", 62 VDD (power) "Positive supply for peripheral logic and I/O pins.", 65 VSS (power) "Ground reference for logic and I/O pins.", 75 VSS (power) "Ground reference for logic and I/O pins.", 86 VDD (power) "Positive supply for peripheral logic and I/O pins."

## DSPIC33EP512GM604-E/ML
designator U?
16-Bit Digital Signal Controllers with High-Speed PWM, Op Amps and Advanced Analog Features, 60 MIPS, 35 I/O, Extended Temperature, 44-Pin QFN (ML44), Tube; Manufacturer: Microchip; PartNumber: DSPIC33EP512GM604-E/ML; VCC Range: 3.0 to 3.6 V; DatasheetVersion: Rev. C; PackageVersion: C04-103C, 12/2012; PackageReference: QFN-ML44; PackageDescription: 44-Lead Plastic Quad Flat, 8 x 8 mm Body, 0.65 mm Pitch; Supplier 1: Digi-Key; Supplier Part Number 1: DSPIC33EP512GM604-E/ML-ND; Supplier 2: Newark; Supplier Part Number 2: 66W6861; Supplier 3: Mouser; Supplier Part Number 3: 579-512GM604-E/ML; Packing: Tube; Mounting Technology: Surface Mount; ComponentLink1Description: Manufacturer URL; ComponentLink1URL: http://www.microchip.com/; ComponentLink2Description: Datasheet; ComponentLink2URL: http://ww1.microchip.com/downloads/en/DeviceDoc/70000689c.pdf; ComponentLink3Description: Package Specification; ComponentLink3URL: http://www.microchip.com/stellent/groups/techpub_sg/documents/packagingspec/en012702.pdf
footprint MCHP-QFN-ML44_N (QFN, 44-Leads, Body 8x8mm, Pitch 0.65mm, Thermal Pad 6.425x6.425mm, IPC Medium Density)
footprint MCHP-QFN-ML44_L (QFN, 44-Leads, Body 8x8mm, Pitch 0.65mm, Thermal Pad 6.425x6.425mm, IPC High Density)
footprint MCHP-QFN-ML44_M (QFN, 44-Leads, Body 8x8mm, Pitch 0.65mm, Thermal Pad 6.425x6.425mm, IPC Low Density)
pins: 1 TMS/OA5IN-/AN27/C5IN1-/ASDA1/SDI1/RP41/RB9 (io), 2 RP54/PWM6H/RC6 (io), 3 RP55/PWM6L/RC7 (io), 4 RP56/PWM5H/RC8 (io), 5 RP57/PWM5L/RC9 (io), 6 VSS (power) "Ground reference for logic and I/O pins", 7 VCAP "CPU logic filter capacitor connection.", 8 RP42/PWM3H/RB10 (io), 9 RP43/PWM3L/RB11 (io), 10 RPI44/PWM2H/RB12 (io), 11 RPI45/PWM2L/CTPLS/RB13 (io), 12 TDO/PWM4H/RA10 (io), 13 TDI/PWM4L/RA7 (io), 14 RPI46/PWM1H/T3CK/T7CK/RB14 (io), 15 RPI47/PWM1L/T5CK/T6CK/RB15 (io), 16 AVSS (power) "Ground reference for analog modules.", 17 AVDD (power) "Positive supply for analog modules. This pin must be connected at all times", 18 ~{MCLR} (in) "Master Clear (Reset) input. This pin is an active-low Reset to the device.", 19 OA2OUT/AN0/C2IN4-/C4IN3-/RPI16/RA0 (io), 20 OA2IN+/AN1/C2IN3-/C2IN1+/RPI17/RA1 (io), 21 PGED3/VREF-/OA2IN-/AN2/C2IN1-/~{SS1}/RPI32/CTED2/RB0 (io), 22 PGEC3/VREF+/CVREF+/OA1OUT/AN3/C1IN4-/C4IN2-/RPI33/CTED1/RB1 (io), 23 PGEC1/OA1IN+/AN4/C1IN3-/C1IN1+/C2IN3-/RPI34/RB2 (io), 24 PGED1/OA1IN-/AN5/C1IN1-/CTMUC/RP35/RB3 (io), 25 OA3OUT/AN6/C3IN4-/C4IN4-/C4IN1+/RP48/OCFB/RC0 (io), 26 OA3IN-/AN7/C3IN1-/C4IN1-/RP49/RC1 (io), 27 OA3IN+/AN8/C3IN3-/C3IN1+/RPI50/~{U1RTS}/BCLK1/FLT3/RC2 (io), 28 VDD (power) "Positive supply for peripheral logic and I/O pins.", 29 VSS (power) "Ground reference for logic and I/O pins", 30 AN32/OSC1/CLKI/RPI18/RA2 (io), 31 OSC2/CLKO/RPI19/RA3 (io), 32 SDA2/RPI24/RA8 (io), 33 FLT32/SCL2/RP36/RB4 (io), 34 OA5IN+/AN24/C5IN3-/C5IN1+/SDO1/RP20/T1CK/RA4 (io), 35 AN28/SDI1/RPI25/RA9 (io), 36 AN29/SCK1/RPI51/RC3 (io), 37 AN30/SDA1/RPI52/RC4 (io), 38 AN31/CVREF2O/SCL1/RPI53/RC5 (io), 39 VSS (power) "Ground reference for logic and I/O pins", 40 VDD (power) "Positive supply for peripheral logic and I/O pins.", 41 PGED2/ASDA2/RP37/RB5 (io), 42 PGEC2/ASCL2/RP38/RB6 (io), 43 OA5OUT/AN25/C5IN4-/RP39/INT0/RB7 (io), 44 TCK/AN26/CVREF1O/ASCL1/RP40/T4CK/RB8 (io), 45 EP (power)

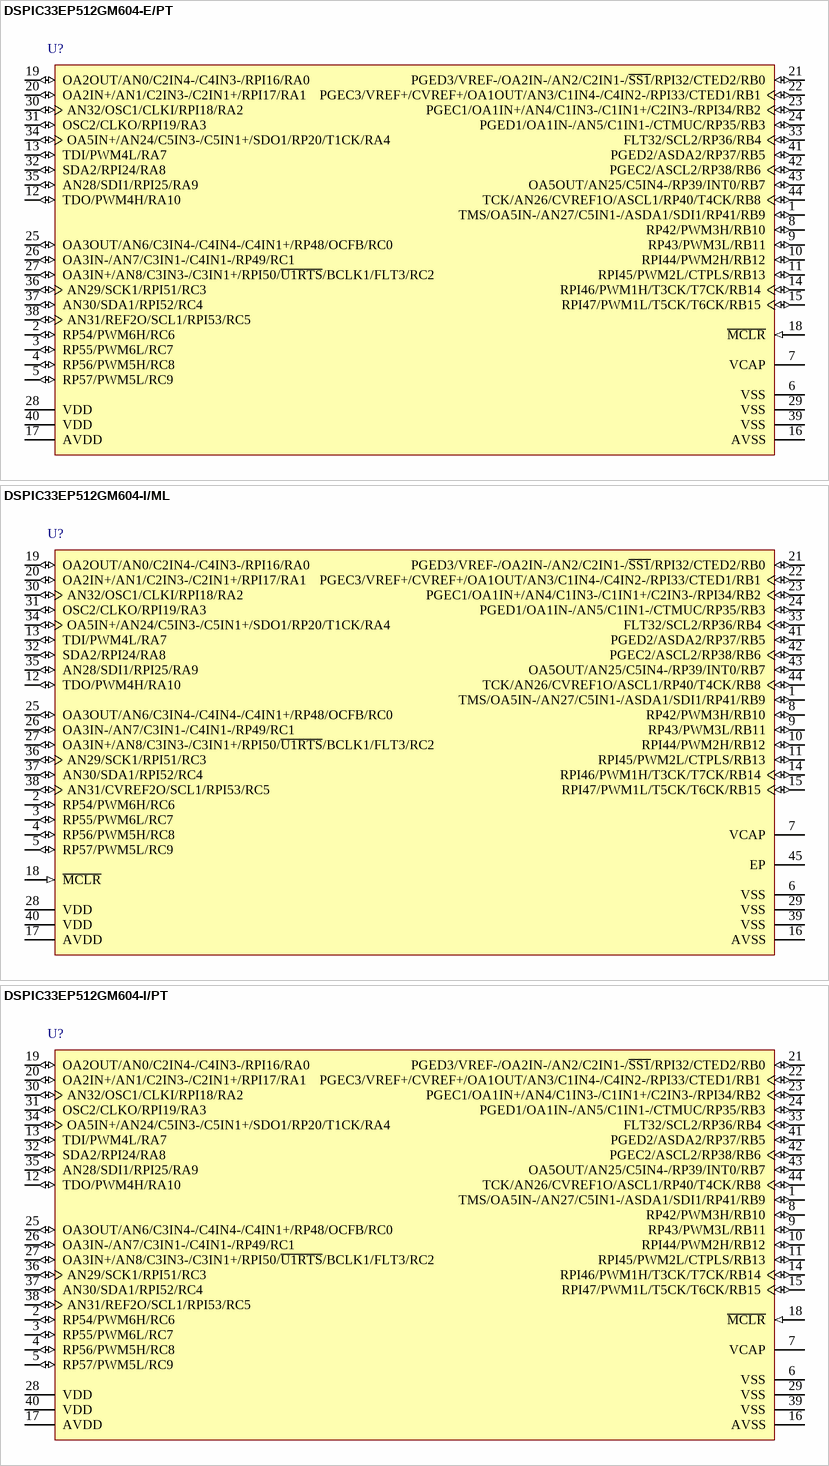
[diagram p44: symbols DSPIC33EP512GM604-E/PT to DSPIC33EP512GM604-I/PT]

## DSPIC33EP512GM604-E/PT
designator U?
16-Bit Digital Signal Controllers with High-Speed PWM, Op Amps and Advanced Analog Features, 60 MIPS, 35 I/O, Extended Temperature, 44-Pin TQFP (PT44), Tray; Manufacturer: Microchip; PartNumber: DSPIC33EP512GM604-E/PT; VCC Range: 3.0 to 3.6 V; DatasheetVersion: Rev. C; PackageVersion: C04-076B, 12/2012; PackageReference: TQFP-PT44; PackageDescription: 44-Lead Plastic Thin Quad Flatpack, 10 x 10 mm Body, 0.8 mm Pitch; Supplier 1: Digi-Key; Supplier Part Number 1: DSPIC33EP512GM604-E/PT-ND; Supplier 2: Newark; Supplier Part Number 2: 66W6862; Supplier 3: Mouser; Supplier Part Number 3: 579-512GM604-E/PT; Packing: Tray; Mounting Technology: Surface Mount; ComponentLink1Description: Manufacturer URL; ComponentLink1URL: http://www.microchip.com/; ComponentLink2Description: Datasheet; ComponentLink2URL: http://ww1.microchip.com/downloads/en/DeviceDoc/70000689c.pdf; ComponentLink3Description: Package Specification; ComponentLink3URL: http://www.microchip.com/stellent/groups/techpub_sg/documents/packagingspec/en012702.pdf
footprint MCHP-TQFP-PT44_N (QFN, 44-Leads, Body 10x10mm, Pitch 0.8mm, IPC Medium Density)
footprint MCHP-TQFP-PT44_L (QFN, 44-Leads, Body 10x10mm, Pitch 0.8mm, IPC High Density)
footprint MCHP-TQFP-PT44_M (QFN, 44-Leads, Body 10x10mm, Pitch 0.8mm, IPC Low Density)
pins: 1 TMS/OA5IN-/AN27/C5IN1-/ASDA1/SDI1/RP41/RB9 (io), 2 RP54/PWM6H/RC6 (io), 3 RP55/PWM6L/RC7 (io), 4 RP56/PWM5H/RC8 (io), 5 RP57/PWM5L/RC9 (io), 6 VSS (power) "Ground reference for logic and I/O pins.", 7 VCAP "CPU logic filter capacitor connection.", 8 RP42/PWM3H/RB10 (io), 9 RP43/PWM3L/RB11 (io), 10 RPI44/PWM2H/RB12 (io), 11 RPI45/PWM2L/CTPLS/RB13 (io), 12 TDO/PWM4H/RA10 (io), 13 TDI/PWM4L/RA7 (io), 14 RPI46/PWM1H/T3CK/T7CK/RB14 (io), 15 RPI47/PWM1L/T5CK/T6CK/RB15 (io), 16 AVSS (power) "Ground reference for analog modules.", 17 AVDD (power) "Positive supply for analog modules. This pin must be connected at all times.", 18 ~{MCLR} (in) "Master Clear (Reset) input. This pin is an active-low Reset to the device.", 19 OA2OUT/AN0/C2IN4-/C4IN3-/RPI16/RA0 (io), 20 OA2IN+/AN1/C2IN3-/C2IN1+/RPI17/RA1 (io), 21 PGED3/VREF-/OA2IN-/AN2/C2IN1-/~{SS1}/RPI32/CTED2/RB0 (io), 22 PGEC3/VREF+/CVREF+/OA1OUT/AN3/C1IN4-/C4IN2-/RPI33/CTED1/RB1 (io), 23 PGEC1/OA1IN+/AN4/C1IN3-/C1IN1+/C2IN3-/RPI34/RB2 (io), 24 PGED1/OA1IN-/AN5/C1IN1-/CTMUC/RP35/RB3 (io), 25 OA3OUT/AN6/C3IN4-/C4IN4-/C4IN1+/RP48/OCFB/RC0 (io), 26 OA3IN-/AN7/C3IN1-/C4IN1-/RP49/RC1 (io), 27 OA3IN+/AN8/C3IN3-/C3IN1+/RPI50/~{U1RTS}/BCLK1/FLT3/RC2 (io), 28 VDD (power) "Positive supply for peripheral logic and I/O pins.", 29 VSS (power) "Ground reference for logic and I/O pins.", 30 AN32/OSC1/CLKI/RPI18/RA2 (io), 31 OSC2/CLKO/RPI19/RA3 (io), 32 SDA2/RPI24/RA8 (io), 33 FLT32/SCL2/RP36/RB4 (io), 34 OA5IN+/AN24/C5IN3-/C5IN1+/SDO1/RP20/T1CK/RA4 (io), 35 AN28/SDI1/RPI25/RA9 (io), 36 AN29/SCK1/RPI51/RC3 (io), 37 AN30/SDA1/RPI52/RC4 (io), 38 AN31/REF2O/SCL1/RPI53/RC5 (io), 39 VSS (power) "Ground reference for logic and I/O pins.", 40 VDD (power) "Positive supply for peripheral logic and I/O pins.", 41 PGED2/ASDA2/RP37/RB5 (io), 42 PGEC2/ASCL2/RP38/RB6 (io), 43 OA5OUT/AN25/C5IN4-/RP39/INT0/RB7 (io), 44 TCK/AN26/CVREF1O/ASCL1/RP40/T4CK/RB8 (io)